# Altium integrated library Freescale Microcontroller 32-Bit ARM.IntLib: 64 symbols (part 5 of 7)
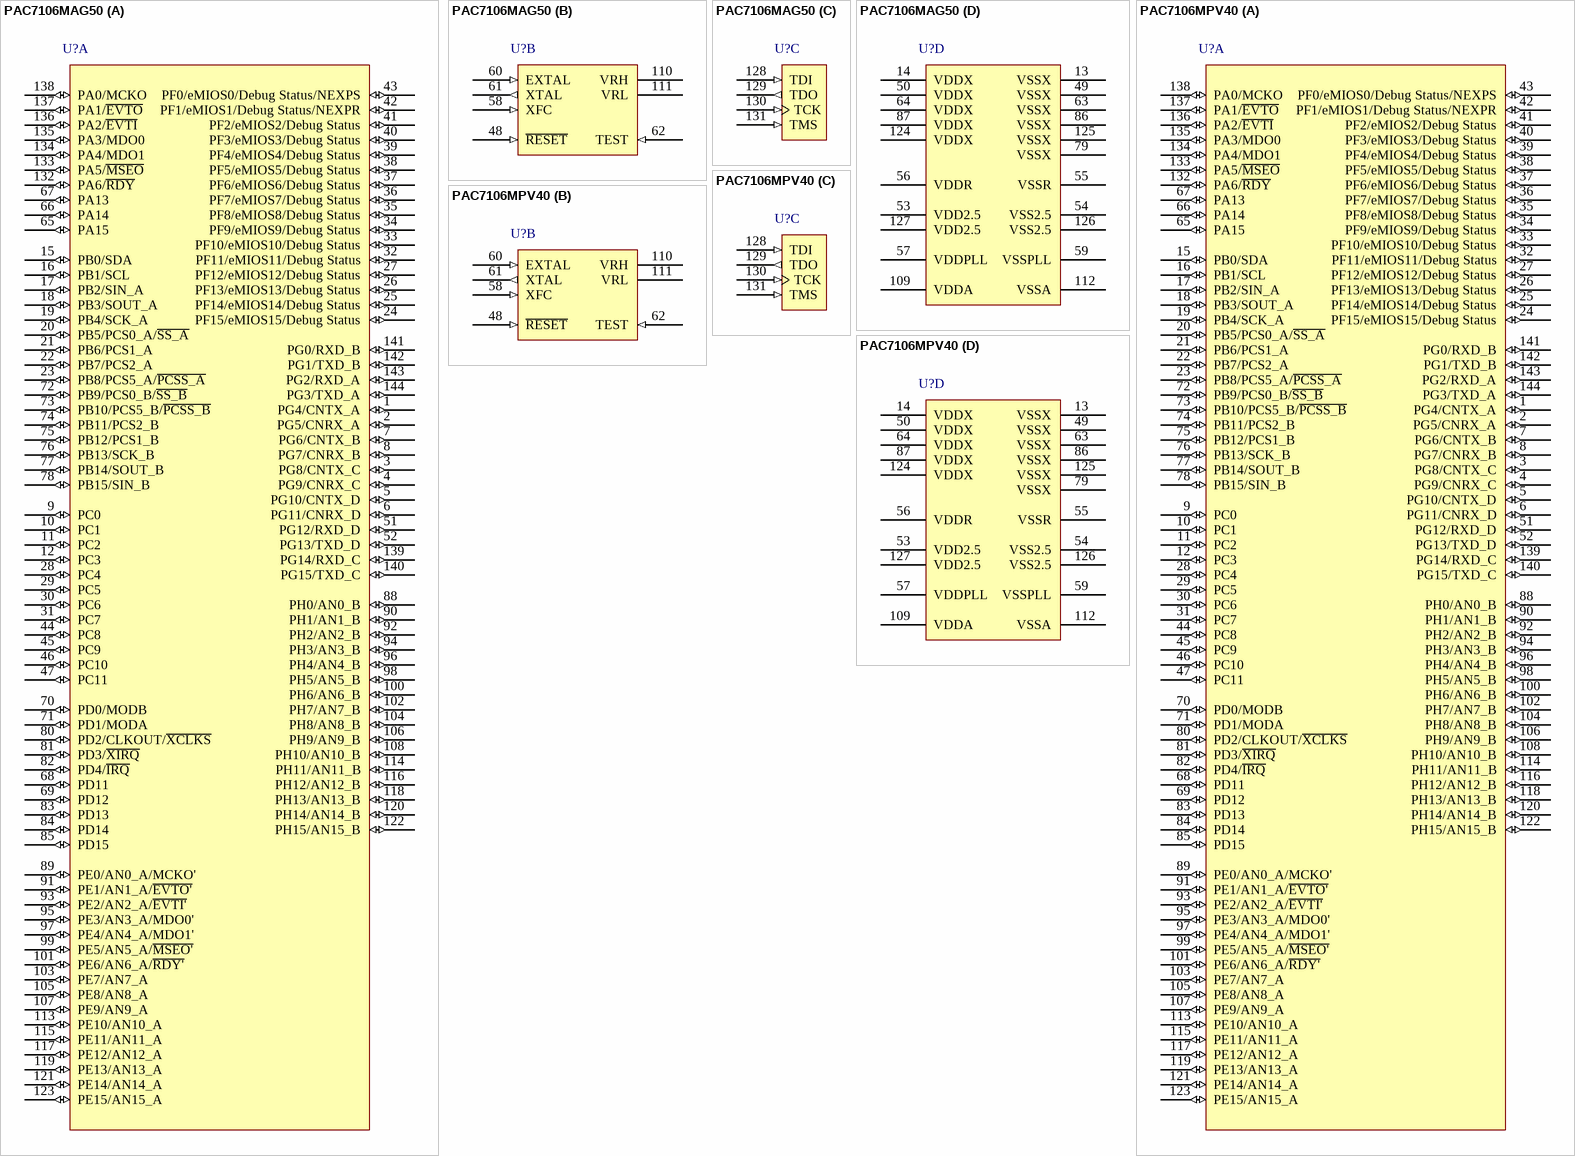
[diagram p42: symbols PAC7106MAG50 to PAC7106MPV40]

## PAC7106MPV40
designator U?
32-Bit ARM7TDMI-S RISC Core, 1MB Program Flash EEPROM, 48KB RAM, 144-Pin LQFP; FunctionAvailability: PD2 function and Debug Status port not available on mask set L49P devices.; Published: 16-Oct-2006; DatasheetVersion: rev1.2, Feb-2006; PackageVersion: revF, May-2005; PackageReference: 918-03; Publisher: Altium Limited; PackageDescription: 144-Pin Low Profile Quad Flat Pack 0.5 mm Pitch (918-03); ComponentLink1Description: Manufacturer Link; ComponentLink1URL: http://www.freescale.com/webapp/sps/site/taxonomy.jsp?nodeId=0162468rH311432451; ComponentLink2Description: Datasheet; ComponentLink2URL: http://www.freescale.com/files/32bit/doc/data_sheet/MAC7100EC.pdf; ComponentLink3Description: Packaging Specification; ComponentLink3URL: http://www.freescale.com/files/shared/doc/package_info/98ASS23177W.pdf
footprint 918-03_N (Thin QFP, 144-Leads, Body 20x20mm, Pitch 0.5mm, IPC Medium Density)
footprint 918-03_L (Thin QFP, 144-Leads, Body 20x20mm, Pitch 0.5mm, IPC High Density)
footprint 918-03_M (Thin QFP, 144-Leads, Body 20x20mm, Pitch 0.5mm, IPC Low Density)
part A pins: 1 PG4/CNTX_A (io), 2 PG5/CNRX_A (io), 3 PG8/CNTX_C (io), 4 PG9/CNRX_C (io), 5 PG10/CNTX_D (io), 6 PG11/CNRX_D (io), 7 PG6/CNTX_B (io), 8 PG7/CNRX_B (io), 9 PC0 (io), 10 PC1 (io), 11 PC2 (io), 12 PC3 (io), 15 PB0/SDA (io), 16 PB1/SCL (io), 17 PB2/SIN_A (io), 18 PB3/SOUT_A (io), 19 PB4/SCK_A (io), 20 PB5/PCS0_A/~{SS_A} (io), 21 PB6/PCS1_A (io), 22 PB7/PCS2_A (io), 23 PB8/PCS5_A/~{PCSS_A} (io), 24 PF15/eMIOS15/Debug Status (io), 25 PF14/eMIOS14/Debug Status (io), 26 PF13/eMIOS13/Debug Status (io), 27 PF12/eMIOS12/Debug Status (io), 28 PC4 (io), 29 PC5 (io), 30 PC6 (io), 31 PC7 (io), 32 PF11/eMIOS11/Debug Status (io), 33 PF10/eMIOS10/Debug Status (io), 34 PF9/eMIOS9/Debug Status (io), 35 PF8/eMIOS8/Debug Status (io), 36 PF7/eMIOS7/Debug Status (io), 37 PF6/eMIOS6/Debug Status (io), 38 PF5/eMIOS5/Debug Status (io), 39 PF4/eMIOS4/Debug Status (io), 40 PF3/eMIOS3/Debug Status (io), 41 PF2/eMIOS2/Debug Status (io), 42 PF1/eMIOS1/Debug Status/NEXPR (io), 43 PF0/eMIOS0/Debug Status/NEXPS (io), 44 PC8 (io), 45 PC9 (io), 46 PC10 (io), 47 PC11 (io), 51 PG12/RXD_D (io), 52 PG13/TXD_D (io), 65 PA15 (io), 66 PA14 (io), 67 PA13 (io), 68 PD11 (io), 69 PD12 (io), 70 PD0/MODB (io), 71 PD1/MODA (io), 72 PB9/PCS0_B/~{SS_B} (io), 73 PB10/PCS5_B/~{PCSS_B} (io), 74 PB11/PCS2_B (io), 75 PB12/PCS1_B (io), 76 PB13/SCK_B (io), 77 PB14/SOUT_B (io), 78 PB15/SIN_B (io), 80 PD2/CLKOUT/~{XCLKS} (io), 81 PD3/~{XIRQ} (io), 82 PD4/~{IRQ} (io), 83 PD13 (io), 84 PD14 (io), 85 PD15 (io), 88 PH0/AN0_B (io), 89 PE0/AN0_A/MCKO' (io), 90 PH1/AN1_B (io), 91 PE1/AN1_A/~{EVTO'} (io), 92 PH2/AN2_B (io), 93 PE2/AN2_A/~{EVTI'} (io), 94 PH3/AN3_B (io), 95 PE3/AN3_A/MDO0' (io), 96 PH4/AN4_B (io), 97 PE4/AN4_A/MDO1' (io), 98 PH5/AN5_B (io), 99 PE5/AN5_A/~{MSEO'} (io), 100 PH6/AN6_B (io), 101 PE6/AN6_A/~{RDY'} (io), 102 PH7/AN7_B (io), 103 PE7/AN7_A (io), 104 PH8/AN8_B (io), 105 PE8/AN8_A (io), 106 PH9/AN9_B (io), 107 PE9/AN9_A (io), 108 PH10/AN10_B (io), 113 PE10/AN10_A (io), 114 PH11/AN11_B (io), 115 PE11/AN11_A (io), 116 PH12/AN12_B (io), 117 PE12/AN12_A (io), 118 PH13/AN13_B (io), 119 PE13/AN13_A (io), 120 PH14/AN14_B (io), 121 PE14/AN14_A (io), 122 PH15/AN15_B (io), 123 PE15/AN15_A (io), 132 PA6/~{RDY} (io), 133 PA5/~{MSEO} (io), 134 PA4/MDO1 (io), 135 PA3/MDO0 (io), 136 PA2/~{EVTI} (io), 137 PA1/~{EVTO} (io), 138 PA0/MCKO (io), 139 PG14/RXD_C (io), 140 PG15/TXD_C (io), 141 PG0/RXD_B (io), 142 PG1/TXD_B (io), 143 PG2/RXD_A (io), 144 PG3/TXD_A (io)
part B pins: 48 ~{RESET} (in), 58 XFC (in), 60 EXTAL (in), 61 XTAL (out), 62 TEST (in), 110 VRH (power), 111 VRL (power)
part C pins: 128 TDI (in), 129 TDO (out), 130 TCK (in), 131 TMS (in)
part D pins: 13 VSSX (power), 14 VDDX (power), 49 VSSX (power), 50 VDDX (power), 53 VDD2.5 (power), 54 VSS2.5 (power), 55 VSSR (power), 56 VDDR (power), 57 VDDPLL (power), 59 VSSPLL (power), 63 VSSX (power), 64 VDDX (power), 79 VSSX (power), 86 VSSX (power), 87 VDDX (power), 109 VDDA (power), 112 VSSA (power), 124 VDDX (power), 125 VSSX (power), 126 VSS2.5 (power), 127 VDD2.5 (power)

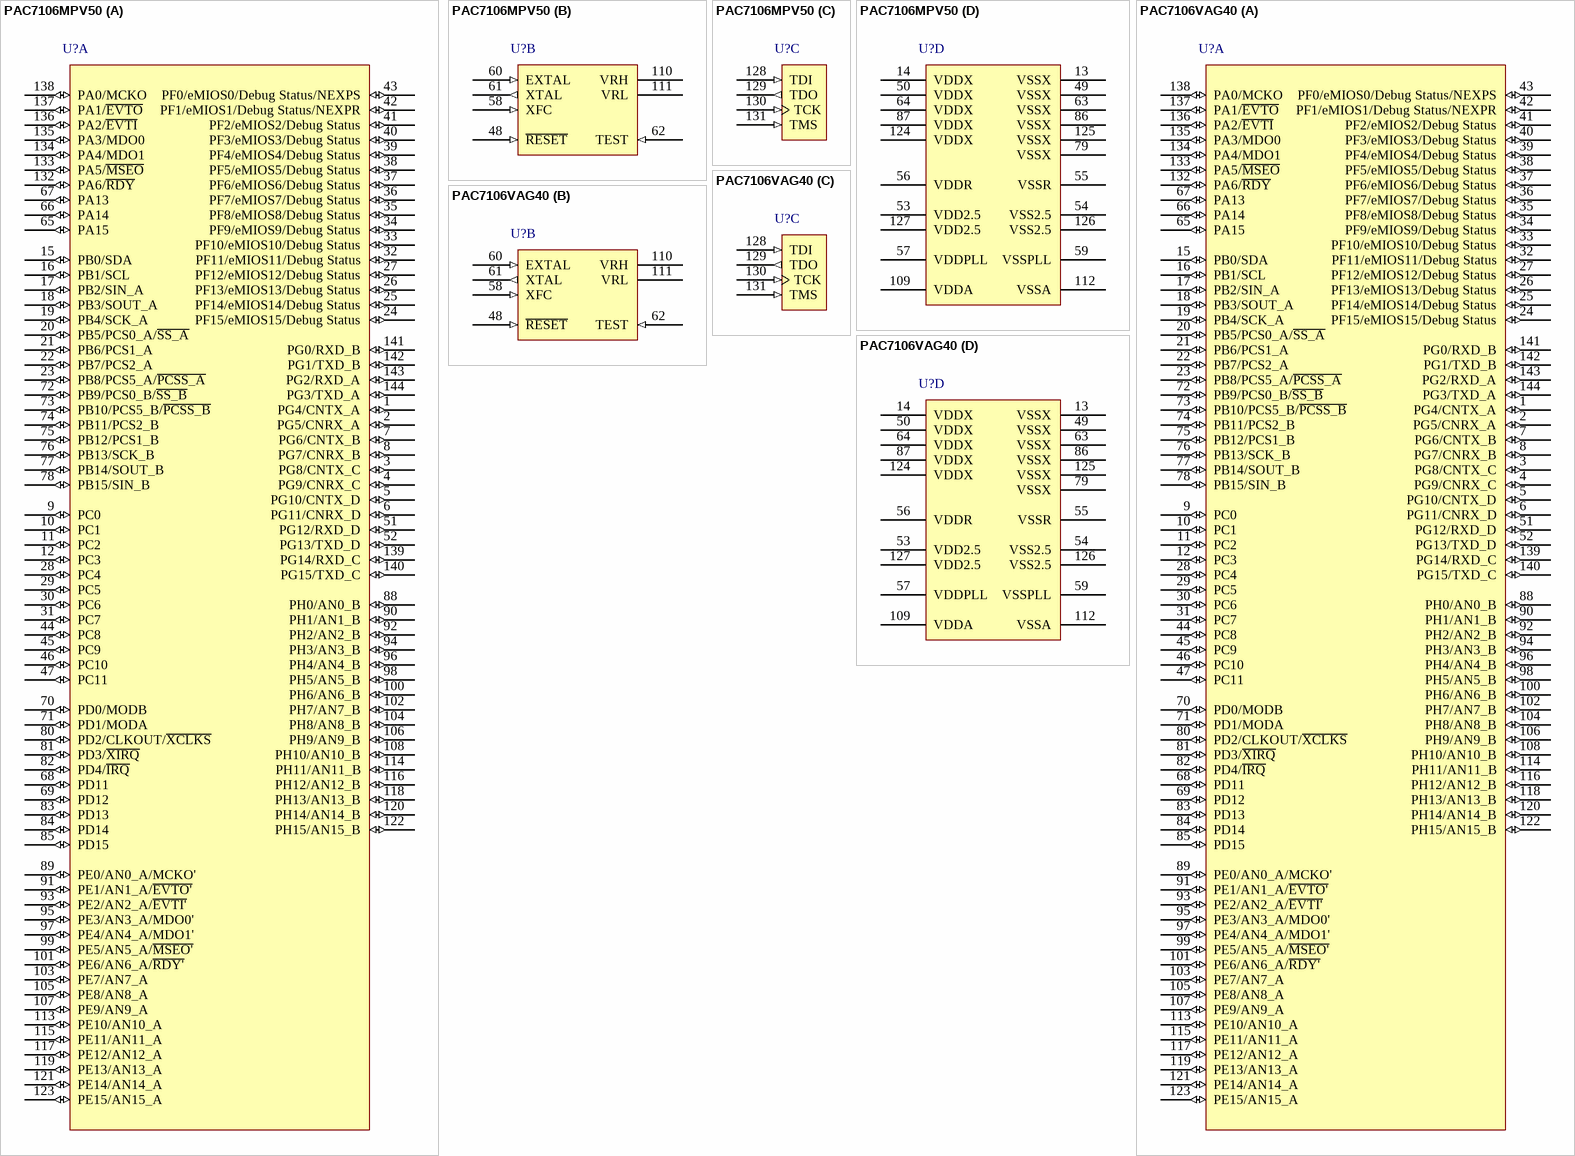
[diagram p25: symbols PAC7106MPV50 to PAC7106VAG40]

## PAC7106MPV50
designator U?
32-Bit ARM7TDMI-S RISC Core, 1MB Program Flash EEPROM, 48KB RAM, 144-Pin LQFP; FunctionAvailability: PD2 function and Debug Status port not available on mask set L49P devices.; Published: 16-Oct-2006; DatasheetVersion: rev1.2, Feb-2006; PackageVersion: revF, May-2005; PackageReference: 918-03; Publisher: Altium Limited; PackageDescription: 144-Pin Low Profile Quad Flat Pack 0.5 mm Pitch (918-03); ComponentLink1Description: Manufacturer Link; ComponentLink1URL: http://www.freescale.com/webapp/sps/site/taxonomy.jsp?nodeId=0162468rH311432451; ComponentLink2Description: Datasheet; ComponentLink2URL: http://www.freescale.com/files/32bit/doc/data_sheet/MAC7100EC.pdf; ComponentLink3Description: Packaging Specification; ComponentLink3URL: http://www.freescale.com/files/shared/doc/package_info/98ASS23177W.pdf
footprint 918-03_N (Thin QFP, 144-Leads, Body 20x20mm, Pitch 0.5mm, IPC Medium Density)
footprint 918-03_L (Thin QFP, 144-Leads, Body 20x20mm, Pitch 0.5mm, IPC High Density)
footprint 918-03_M (Thin QFP, 144-Leads, Body 20x20mm, Pitch 0.5mm, IPC Low Density)
part A pins: 1 PG4/CNTX_A (io), 2 PG5/CNRX_A (io), 3 PG8/CNTX_C (io), 4 PG9/CNRX_C (io), 5 PG10/CNTX_D (io), 6 PG11/CNRX_D (io), 7 PG6/CNTX_B (io), 8 PG7/CNRX_B (io), 9 PC0 (io), 10 PC1 (io), 11 PC2 (io), 12 PC3 (io), 15 PB0/SDA (io), 16 PB1/SCL (io), 17 PB2/SIN_A (io), 18 PB3/SOUT_A (io), 19 PB4/SCK_A (io), 20 PB5/PCS0_A/~{SS_A} (io), 21 PB6/PCS1_A (io), 22 PB7/PCS2_A (io), 23 PB8/PCS5_A/~{PCSS_A} (io), 24 PF15/eMIOS15/Debug Status (io), 25 PF14/eMIOS14/Debug Status (io), 26 PF13/eMIOS13/Debug Status (io), 27 PF12/eMIOS12/Debug Status (io), 28 PC4 (io), 29 PC5 (io), 30 PC6 (io), 31 PC7 (io), 32 PF11/eMIOS11/Debug Status (io), 33 PF10/eMIOS10/Debug Status (io), 34 PF9/eMIOS9/Debug Status (io), 35 PF8/eMIOS8/Debug Status (io), 36 PF7/eMIOS7/Debug Status (io), 37 PF6/eMIOS6/Debug Status (io), 38 PF5/eMIOS5/Debug Status (io), 39 PF4/eMIOS4/Debug Status (io), 40 PF3/eMIOS3/Debug Status (io), 41 PF2/eMIOS2/Debug Status (io), 42 PF1/eMIOS1/Debug Status/NEXPR (io), 43 PF0/eMIOS0/Debug Status/NEXPS (io), 44 PC8 (io), 45 PC9 (io), 46 PC10 (io), 47 PC11 (io), 51 PG12/RXD_D (io), 52 PG13/TXD_D (io), 65 PA15 (io), 66 PA14 (io), 67 PA13 (io), 68 PD11 (io), 69 PD12 (io), 70 PD0/MODB (io), 71 PD1/MODA (io), 72 PB9/PCS0_B/~{SS_B} (io), 73 PB10/PCS5_B/~{PCSS_B} (io), 74 PB11/PCS2_B (io), 75 PB12/PCS1_B (io), 76 PB13/SCK_B (io), 77 PB14/SOUT_B (io), 78 PB15/SIN_B (io), 80 PD2/CLKOUT/~{XCLKS} (io), 81 PD3/~{XIRQ} (io), 82 PD4/~{IRQ} (io), 83 PD13 (io), 84 PD14 (io), 85 PD15 (io), 88 PH0/AN0_B (io), 89 PE0/AN0_A/MCKO' (io), 90 PH1/AN1_B (io), 91 PE1/AN1_A/~{EVTO'} (io), 92 PH2/AN2_B (io), 93 PE2/AN2_A/~{EVTI'} (io), 94 PH3/AN3_B (io), 95 PE3/AN3_A/MDO0' (io), 96 PH4/AN4_B (io), 97 PE4/AN4_A/MDO1' (io), 98 PH5/AN5_B (io), 99 PE5/AN5_A/~{MSEO'} (io), 100 PH6/AN6_B (io), 101 PE6/AN6_A/~{RDY'} (io), 102 PH7/AN7_B (io), 103 PE7/AN7_A (io), 104 PH8/AN8_B (io), 105 PE8/AN8_A (io), 106 PH9/AN9_B (io), 107 PE9/AN9_A (io), 108 PH10/AN10_B (io), 113 PE10/AN10_A (io), 114 PH11/AN11_B (io), 115 PE11/AN11_A (io), 116 PH12/AN12_B (io), 117 PE12/AN12_A (io), 118 PH13/AN13_B (io), 119 PE13/AN13_A (io), 120 PH14/AN14_B (io), 121 PE14/AN14_A (io), 122 PH15/AN15_B (io), 123 PE15/AN15_A (io), 132 PA6/~{RDY} (io), 133 PA5/~{MSEO} (io), 134 PA4/MDO1 (io), 135 PA3/MDO0 (io), 136 PA2/~{EVTI} (io), 137 PA1/~{EVTO} (io), 138 PA0/MCKO (io), 139 PG14/RXD_C (io), 140 PG15/TXD_C (io), 141 PG0/RXD_B (io), 142 PG1/TXD_B (io), 143 PG2/RXD_A (io), 144 PG3/TXD_A (io)
part B pins: 48 ~{RESET} (in), 58 XFC (in), 60 EXTAL (in), 61 XTAL (out), 62 TEST (in), 110 VRH (power), 111 VRL (power)
part C pins: 128 TDI (in), 129 TDO (out), 130 TCK (in), 131 TMS (in)
part D pins: 13 VSSX (power), 14 VDDX (power), 49 VSSX (power), 50 VDDX (power), 53 VDD2.5 (power), 54 VSS2.5 (power), 55 VSSR (power), 56 VDDR (power), 57 VDDPLL (power), 59 VSSPLL (power), 63 VSSX (power), 64 VDDX (power), 79 VSSX (power), 86 VSSX (power), 87 VDDX (power), 109 VDDA (power), 112 VSSA (power), 124 VDDX (power), 125 VSSX (power), 126 VSS2.5 (power), 127 VDD2.5 (power)

## PAC7106VAG40
designator U?
32-Bit ARM7TDMI-S RISC Core, 1MB Program Flash EEPROM, 48KB RAM, 144-Pin LQFP, Pb-Free; FunctionAvailability: PD2 function and Debug Status port not available on mask set L49P devices.; Published: 16-Oct-2006; DatasheetVersion: rev1.2, Feb-2006; PackageVersion: revF, May-2005; PackageReference: 918-03; Publisher: Altium Limited; PackageDescription: 144-Pin Low Profile Quad Flat Pack 0.5 mm Pitch (918-03); ComponentLink1Description: Manufacturer Link; ComponentLink1URL: http://www.freescale.com/webapp/sps/site/taxonomy.jsp?nodeId=0162468rH311432451; ComponentLink2Description: Datasheet; ComponentLink2URL: http://www.freescale.com/files/32bit/doc/data_sheet/MAC7100EC.pdf; ComponentLink3Description: Packaging Specification; ComponentLink3URL: http://www.freescale.com/files/shared/doc/package_info/98ASS23177W.pdf
footprint 918-03_N (Thin QFP, 144-Leads, Body 20x20mm, Pitch 0.5mm, IPC Medium Density)
footprint 918-03_L (Thin QFP, 144-Leads, Body 20x20mm, Pitch 0.5mm, IPC High Density)
footprint 918-03_M (Thin QFP, 144-Leads, Body 20x20mm, Pitch 0.5mm, IPC Low Density)
part A pins: 1 PG4/CNTX_A (io), 2 PG5/CNRX_A (io), 3 PG8/CNTX_C (io), 4 PG9/CNRX_C (io), 5 PG10/CNTX_D (io), 6 PG11/CNRX_D (io), 7 PG6/CNTX_B (io), 8 PG7/CNRX_B (io), 9 PC0 (io), 10 PC1 (io), 11 PC2 (io), 12 PC3 (io), 15 PB0/SDA (io), 16 PB1/SCL (io), 17 PB2/SIN_A (io), 18 PB3/SOUT_A (io), 19 PB4/SCK_A (io), 20 PB5/PCS0_A/~{SS_A} (io), 21 PB6/PCS1_A (io), 22 PB7/PCS2_A (io), 23 PB8/PCS5_A/~{PCSS_A} (io), 24 PF15/eMIOS15/Debug Status (io), 25 PF14/eMIOS14/Debug Status (io), 26 PF13/eMIOS13/Debug Status (io), 27 PF12/eMIOS12/Debug Status (io), 28 PC4 (io), 29 PC5 (io), 30 PC6 (io), 31 PC7 (io), 32 PF11/eMIOS11/Debug Status (io), 33 PF10/eMIOS10/Debug Status (io), 34 PF9/eMIOS9/Debug Status (io), 35 PF8/eMIOS8/Debug Status (io), 36 PF7/eMIOS7/Debug Status (io), 37 PF6/eMIOS6/Debug Status (io), 38 PF5/eMIOS5/Debug Status (io), 39 PF4/eMIOS4/Debug Status (io), 40 PF3/eMIOS3/Debug Status (io), 41 PF2/eMIOS2/Debug Status (io), 42 PF1/eMIOS1/Debug Status/NEXPR (io), 43 PF0/eMIOS0/Debug Status/NEXPS (io), 44 PC8 (io), 45 PC9 (io), 46 PC10 (io), 47 PC11 (io), 51 PG12/RXD_D (io), 52 PG13/TXD_D (io), 65 PA15 (io), 66 PA14 (io), 67 PA13 (io), 68 PD11 (io), 69 PD12 (io), 70 PD0/MODB (io), 71 PD1/MODA (io), 72 PB9/PCS0_B/~{SS_B} (io), 73 PB10/PCS5_B/~{PCSS_B} (io), 74 PB11/PCS2_B (io), 75 PB12/PCS1_B (io), 76 PB13/SCK_B (io), 77 PB14/SOUT_B (io), 78 PB15/SIN_B (io), 80 PD2/CLKOUT/~{XCLKS} (io), 81 PD3/~{XIRQ} (io), 82 PD4/~{IRQ} (io), 83 PD13 (io), 84 PD14 (io), 85 PD15 (io), 88 PH0/AN0_B (io), 89 PE0/AN0_A/MCKO' (io), 90 PH1/AN1_B (io), 91 PE1/AN1_A/~{EVTO'} (io), 92 PH2/AN2_B (io), 93 PE2/AN2_A/~{EVTI'} (io), 94 PH3/AN3_B (io), 95 PE3/AN3_A/MDO0' (io), 96 PH4/AN4_B (io), 97 PE4/AN4_A/MDO1' (io), 98 PH5/AN5_B (io), 99 PE5/AN5_A/~{MSEO'} (io), 100 PH6/AN6_B (io), 101 PE6/AN6_A/~{RDY'} (io), 102 PH7/AN7_B (io), 103 PE7/AN7_A (io), 104 PH8/AN8_B (io), 105 PE8/AN8_A (io), 106 PH9/AN9_B (io), 107 PE9/AN9_A (io), 108 PH10/AN10_B (io), 113 PE10/AN10_A (io), 114 PH11/AN11_B (io), 115 PE11/AN11_A (io), 116 PH12/AN12_B (io), 117 PE12/AN12_A (io), 118 PH13/AN13_B (io), 119 PE13/AN13_A (io), 120 PH14/AN14_B (io), 121 PE14/AN14_A (io), 122 PH15/AN15_B (io), 123 PE15/AN15_A (io), 132 PA6/~{RDY} (io), 133 PA5/~{MSEO} (io), 134 PA4/MDO1 (io), 135 PA3/MDO0 (io), 136 PA2/~{EVTI} (io), 137 PA1/~{EVTO} (io), 138 PA0/MCKO (io), 139 PG14/RXD_C (io), 140 PG15/TXD_C (io), 141 PG0/RXD_B (io), 142 PG1/TXD_B (io), 143 PG2/RXD_A (io), 144 PG3/TXD_A (io)
part B pins: 48 ~{RESET} (in), 58 XFC (in), 60 EXTAL (in), 61 XTAL (out), 62 TEST (in), 110 VRH (power), 111 VRL (power)
part C pins: 128 TDI (in), 129 TDO (out), 130 TCK (in), 131 TMS (in)
part D pins: 13 VSSX (power), 14 VDDX (power), 49 VSSX (power), 50 VDDX (power), 53 VDD2.5 (power), 54 VSS2.5 (power), 55 VSSR (power), 56 VDDR (power), 57 VDDPLL (power), 59 VSSPLL (power), 63 VSSX (power), 64 VDDX (power), 79 VSSX (power), 86 VSSX (power), 87 VDDX (power), 109 VDDA (power), 112 VSSA (power), 124 VDDX (power), 125 VSSX (power), 126 VSS2.5 (power), 127 VDD2.5 (power)

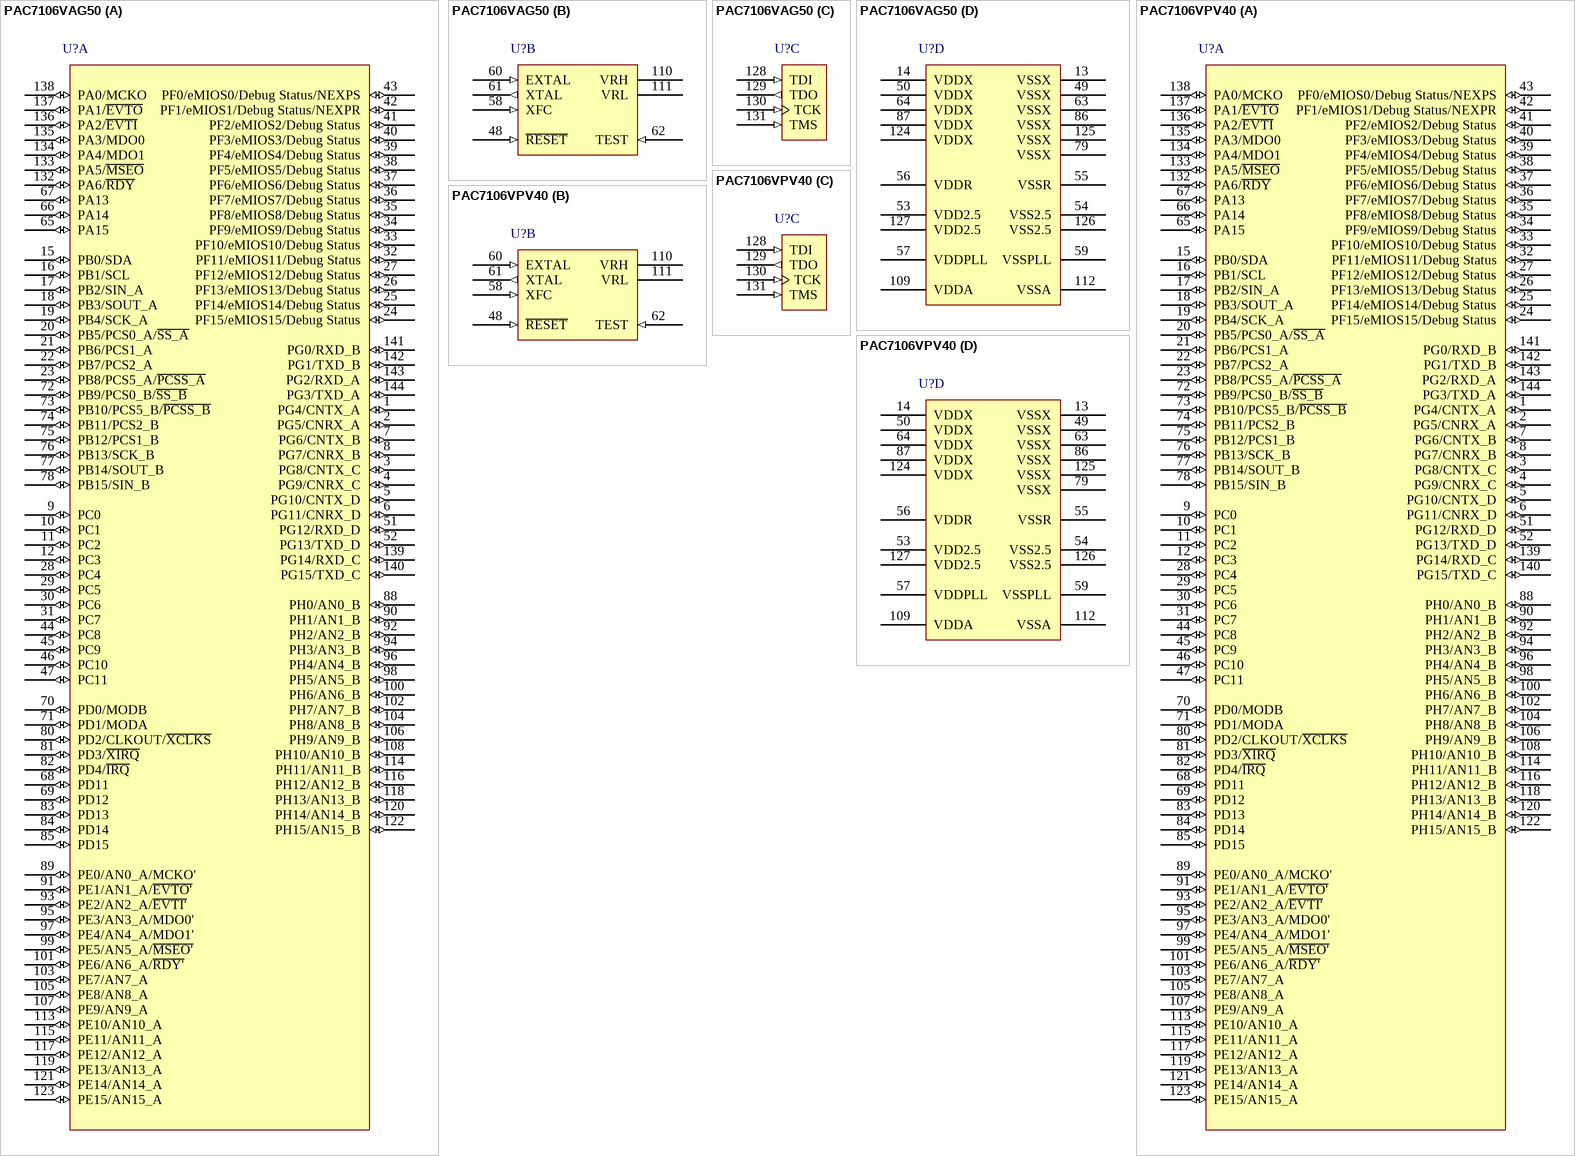
[diagram p26: symbols PAC7106VAG50 to PAC7106VPV40]

## PAC7106VAG50
designator U?
32-Bit ARM7TDMI-S RISC Core, 1MB Program Flash EEPROM, 48KB RAM, 144-Pin LQFP, Pb-Free; FunctionAvailability: PD2 function and Debug Status port not available on mask set L49P devices.; Published: 16-Oct-2006; DatasheetVersion: rev1.2, Feb-2006; PackageVersion: revF, May-2005; PackageReference: 918-03; Publisher: Altium Limited; PackageDescription: 144-Pin Low Profile Quad Flat Pack 0.5 mm Pitch (918-03); ComponentLink1Description: Manufacturer Link; ComponentLink1URL: http://www.freescale.com/webapp/sps/site/taxonomy.jsp?nodeId=0162468rH311432451; ComponentLink2Description: Datasheet; ComponentLink2URL: http://www.freescale.com/files/32bit/doc/data_sheet/MAC7100EC.pdf; ComponentLink3Description: Packaging Specification; ComponentLink3URL: http://www.freescale.com/files/shared/doc/package_info/98ASS23177W.pdf
footprint 918-03_N (Thin QFP, 144-Leads, Body 20x20mm, Pitch 0.5mm, IPC Medium Density)
footprint 918-03_L (Thin QFP, 144-Leads, Body 20x20mm, Pitch 0.5mm, IPC High Density)
footprint 918-03_M (Thin QFP, 144-Leads, Body 20x20mm, Pitch 0.5mm, IPC Low Density)
part A pins: 1 PG4/CNTX_A (io), 2 PG5/CNRX_A (io), 3 PG8/CNTX_C (io), 4 PG9/CNRX_C (io), 5 PG10/CNTX_D (io), 6 PG11/CNRX_D (io), 7 PG6/CNTX_B (io), 8 PG7/CNRX_B (io), 9 PC0 (io), 10 PC1 (io), 11 PC2 (io), 12 PC3 (io), 15 PB0/SDA (io), 16 PB1/SCL (io), 17 PB2/SIN_A (io), 18 PB3/SOUT_A (io), 19 PB4/SCK_A (io), 20 PB5/PCS0_A/~{SS_A} (io), 21 PB6/PCS1_A (io), 22 PB7/PCS2_A (io), 23 PB8/PCS5_A/~{PCSS_A} (io), 24 PF15/eMIOS15/Debug Status (io), 25 PF14/eMIOS14/Debug Status (io), 26 PF13/eMIOS13/Debug Status (io), 27 PF12/eMIOS12/Debug Status (io), 28 PC4 (io), 29 PC5 (io), 30 PC6 (io), 31 PC7 (io), 32 PF11/eMIOS11/Debug Status (io), 33 PF10/eMIOS10/Debug Status (io), 34 PF9/eMIOS9/Debug Status (io), 35 PF8/eMIOS8/Debug Status (io), 36 PF7/eMIOS7/Debug Status (io), 37 PF6/eMIOS6/Debug Status (io), 38 PF5/eMIOS5/Debug Status (io), 39 PF4/eMIOS4/Debug Status (io), 40 PF3/eMIOS3/Debug Status (io), 41 PF2/eMIOS2/Debug Status (io), 42 PF1/eMIOS1/Debug Status/NEXPR (io), 43 PF0/eMIOS0/Debug Status/NEXPS (io), 44 PC8 (io), 45 PC9 (io), 46 PC10 (io), 47 PC11 (io), 51 PG12/RXD_D (io), 52 PG13/TXD_D (io), 65 PA15 (io), 66 PA14 (io), 67 PA13 (io), 68 PD11 (io), 69 PD12 (io), 70 PD0/MODB (io), 71 PD1/MODA (io), 72 PB9/PCS0_B/~{SS_B} (io), 73 PB10/PCS5_B/~{PCSS_B} (io), 74 PB11/PCS2_B (io), 75 PB12/PCS1_B (io), 76 PB13/SCK_B (io), 77 PB14/SOUT_B (io), 78 PB15/SIN_B (io), 80 PD2/CLKOUT/~{XCLKS} (io), 81 PD3/~{XIRQ} (io), 82 PD4/~{IRQ} (io), 83 PD13 (io), 84 PD14 (io), 85 PD15 (io), 88 PH0/AN0_B (io), 89 PE0/AN0_A/MCKO' (io), 90 PH1/AN1_B (io), 91 PE1/AN1_A/~{EVTO'} (io), 92 PH2/AN2_B (io), 93 PE2/AN2_A/~{EVTI'} (io), 94 PH3/AN3_B (io), 95 PE3/AN3_A/MDO0' (io), 96 PH4/AN4_B (io), 97 PE4/AN4_A/MDO1' (io), 98 PH5/AN5_B (io), 99 PE5/AN5_A/~{MSEO'} (io), 100 PH6/AN6_B (io), 101 PE6/AN6_A/~{RDY'} (io), 102 PH7/AN7_B (io), 103 PE7/AN7_A (io), 104 PH8/AN8_B (io), 105 PE8/AN8_A (io), 106 PH9/AN9_B (io), 107 PE9/AN9_A (io), 108 PH10/AN10_B (io), 113 PE10/AN10_A (io), 114 PH11/AN11_B (io), 115 PE11/AN11_A (io), 116 PH12/AN12_B (io), 117 PE12/AN12_A (io), 118 PH13/AN13_B (io), 119 PE13/AN13_A (io), 120 PH14/AN14_B (io), 121 PE14/AN14_A (io), 122 PH15/AN15_B (io), 123 PE15/AN15_A (io), 132 PA6/~{RDY} (io), 133 PA5/~{MSEO} (io), 134 PA4/MDO1 (io), 135 PA3/MDO0 (io), 136 PA2/~{EVTI} (io), 137 PA1/~{EVTO} (io), 138 PA0/MCKO (io), 139 PG14/RXD_C (io), 140 PG15/TXD_C (io), 141 PG0/RXD_B (io), 142 PG1/TXD_B (io), 143 PG2/RXD_A (io), 144 PG3/TXD_A (io)
part B pins: 48 ~{RESET} (in), 58 XFC (in), 60 EXTAL (in), 61 XTAL (out), 62 TEST (in), 110 VRH (power), 111 VRL (power)
part C pins: 128 TDI (in), 129 TDO (out), 130 TCK (in), 131 TMS (in)
part D pins: 13 VSSX (power), 14 VDDX (power), 49 VSSX (power), 50 VDDX (power), 53 VDD2.5 (power), 54 VSS2.5 (power), 55 VSSR (power), 56 VDDR (power), 57 VDDPLL (power), 59 VSSPLL (power), 63 VSSX (power), 64 VDDX (power), 79 VSSX (power), 86 VSSX (power), 87 VDDX (power), 109 VDDA (power), 112 VSSA (power), 124 VDDX (power), 125 VSSX (power), 126 VSS2.5 (power), 127 VDD2.5 (power)

## PAC7106VPV40
designator U?
32-Bit ARM7TDMI-S RISC Core, 1MB Program Flash EEPROM, 48KB RAM, 144-Pin LQFP; FunctionAvailability: PD2 function and Debug Status port not available on mask set L49P devices.; Published: 16-Oct-2006; DatasheetVersion: rev1.2, Feb-2006; PackageVersion: revF, May-2005; PackageReference: 918-03; Publisher: Altium Limited; PackageDescription: 144-Pin Low Profile Quad Flat Pack 0.5 mm Pitch (918-03); ComponentLink1Description: Manufacturer Link; ComponentLink1URL: http://www.freescale.com/webapp/sps/site/taxonomy.jsp?nodeId=0162468rH311432451; ComponentLink2Description: Datasheet; ComponentLink2URL: http://www.freescale.com/files/32bit/doc/data_sheet/MAC7100EC.pdf; ComponentLink3Description: Packaging Specification; ComponentLink3URL: http://www.freescale.com/files/shared/doc/package_info/98ASS23177W.pdf
footprint 918-03_N (Thin QFP, 144-Leads, Body 20x20mm, Pitch 0.5mm, IPC Medium Density)
footprint 918-03_L (Thin QFP, 144-Leads, Body 20x20mm, Pitch 0.5mm, IPC High Density)
footprint 918-03_M (Thin QFP, 144-Leads, Body 20x20mm, Pitch 0.5mm, IPC Low Density)
part A pins: 1 PG4/CNTX_A (io), 2 PG5/CNRX_A (io), 3 PG8/CNTX_C (io), 4 PG9/CNRX_C (io), 5 PG10/CNTX_D (io), 6 PG11/CNRX_D (io), 7 PG6/CNTX_B (io), 8 PG7/CNRX_B (io), 9 PC0 (io), 10 PC1 (io), 11 PC2 (io), 12 PC3 (io), 15 PB0/SDA (io), 16 PB1/SCL (io), 17 PB2/SIN_A (io), 18 PB3/SOUT_A (io), 19 PB4/SCK_A (io), 20 PB5/PCS0_A/~{SS_A} (io), 21 PB6/PCS1_A (io), 22 PB7/PCS2_A (io), 23 PB8/PCS5_A/~{PCSS_A} (io), 24 PF15/eMIOS15/Debug Status (io), 25 PF14/eMIOS14/Debug Status (io), 26 PF13/eMIOS13/Debug Status (io), 27 PF12/eMIOS12/Debug Status (io), 28 PC4 (io), 29 PC5 (io), 30 PC6 (io), 31 PC7 (io), 32 PF11/eMIOS11/Debug Status (io), 33 PF10/eMIOS10/Debug Status (io), 34 PF9/eMIOS9/Debug Status (io), 35 PF8/eMIOS8/Debug Status (io), 36 PF7/eMIOS7/Debug Status (io), 37 PF6/eMIOS6/Debug Status (io), 38 PF5/eMIOS5/Debug Status (io), 39 PF4/eMIOS4/Debug Status (io), 40 PF3/eMIOS3/Debug Status (io), 41 PF2/eMIOS2/Debug Status (io), 42 PF1/eMIOS1/Debug Status/NEXPR (io), 43 PF0/eMIOS0/Debug Status/NEXPS (io), 44 PC8 (io), 45 PC9 (io), 46 PC10 (io), 47 PC11 (io), 51 PG12/RXD_D (io), 52 PG13/TXD_D (io), 65 PA15 (io), 66 PA14 (io), 67 PA13 (io), 68 PD11 (io), 69 PD12 (io), 70 PD0/MODB (io), 71 PD1/MODA (io), 72 PB9/PCS0_B/~{SS_B} (io), 73 PB10/PCS5_B/~{PCSS_B} (io), 74 PB11/PCS2_B (io), 75 PB12/PCS1_B (io), 76 PB13/SCK_B (io), 77 PB14/SOUT_B (io), 78 PB15/SIN_B (io), 80 PD2/CLKOUT/~{XCLKS} (io), 81 PD3/~{XIRQ} (io), 82 PD4/~{IRQ} (io), 83 PD13 (io), 84 PD14 (io), 85 PD15 (io), 88 PH0/AN0_B (io), 89 PE0/AN0_A/MCKO' (io), 90 PH1/AN1_B (io), 91 PE1/AN1_A/~{EVTO'} (io), 92 PH2/AN2_B (io), 93 PE2/AN2_A/~{EVTI'} (io), 94 PH3/AN3_B (io), 95 PE3/AN3_A/MDO0' (io), 96 PH4/AN4_B (io), 97 PE4/AN4_A/MDO1' (io), 98 PH5/AN5_B (io), 99 PE5/AN5_A/~{MSEO'} (io), 100 PH6/AN6_B (io), 101 PE6/AN6_A/~{RDY'} (io), 102 PH7/AN7_B (io), 103 PE7/AN7_A (io), 104 PH8/AN8_B (io), 105 PE8/AN8_A (io), 106 PH9/AN9_B (io), 107 PE9/AN9_A (io), 108 PH10/AN10_B (io), 113 PE10/AN10_A (io), 114 PH11/AN11_B (io), 115 PE11/AN11_A (io), 116 PH12/AN12_B (io), 117 PE12/AN12_A (io), 118 PH13/AN13_B (io), 119 PE13/AN13_A (io), 120 PH14/AN14_B (io), 121 PE14/AN14_A (io), 122 PH15/AN15_B (io), 123 PE15/AN15_A (io), 132 PA6/~{RDY} (io), 133 PA5/~{MSEO} (io), 134 PA4/MDO1 (io), 135 PA3/MDO0 (io), 136 PA2/~{EVTI} (io), 137 PA1/~{EVTO} (io), 138 PA0/MCKO (io), 139 PG14/RXD_C (io), 140 PG15/TXD_C (io), 141 PG0/RXD_B (io), 142 PG1/TXD_B (io), 143 PG2/RXD_A (io), 144 PG3/TXD_A (io)
part B pins: 48 ~{RESET} (in), 58 XFC (in), 60 EXTAL (in), 61 XTAL (out), 62 TEST (in), 110 VRH (power), 111 VRL (power)
part C pins: 128 TDI (in), 129 TDO (out), 130 TCK (in), 131 TMS (in)
part D pins: 13 VSSX (power), 14 VDDX (power), 49 VSSX (power), 50 VDDX (power), 53 VDD2.5 (power), 54 VSS2.5 (power), 55 VSSR (power), 56 VDDR (power), 57 VDDPLL (power), 59 VSSPLL (power), 63 VSSX (power), 64 VDDX (power), 79 VSSX (power), 86 VSSX (power), 87 VDDX (power), 109 VDDA (power), 112 VSSA (power), 124 VDDX (power), 125 VSSX (power), 126 VSS2.5 (power), 127 VDD2.5 (power)

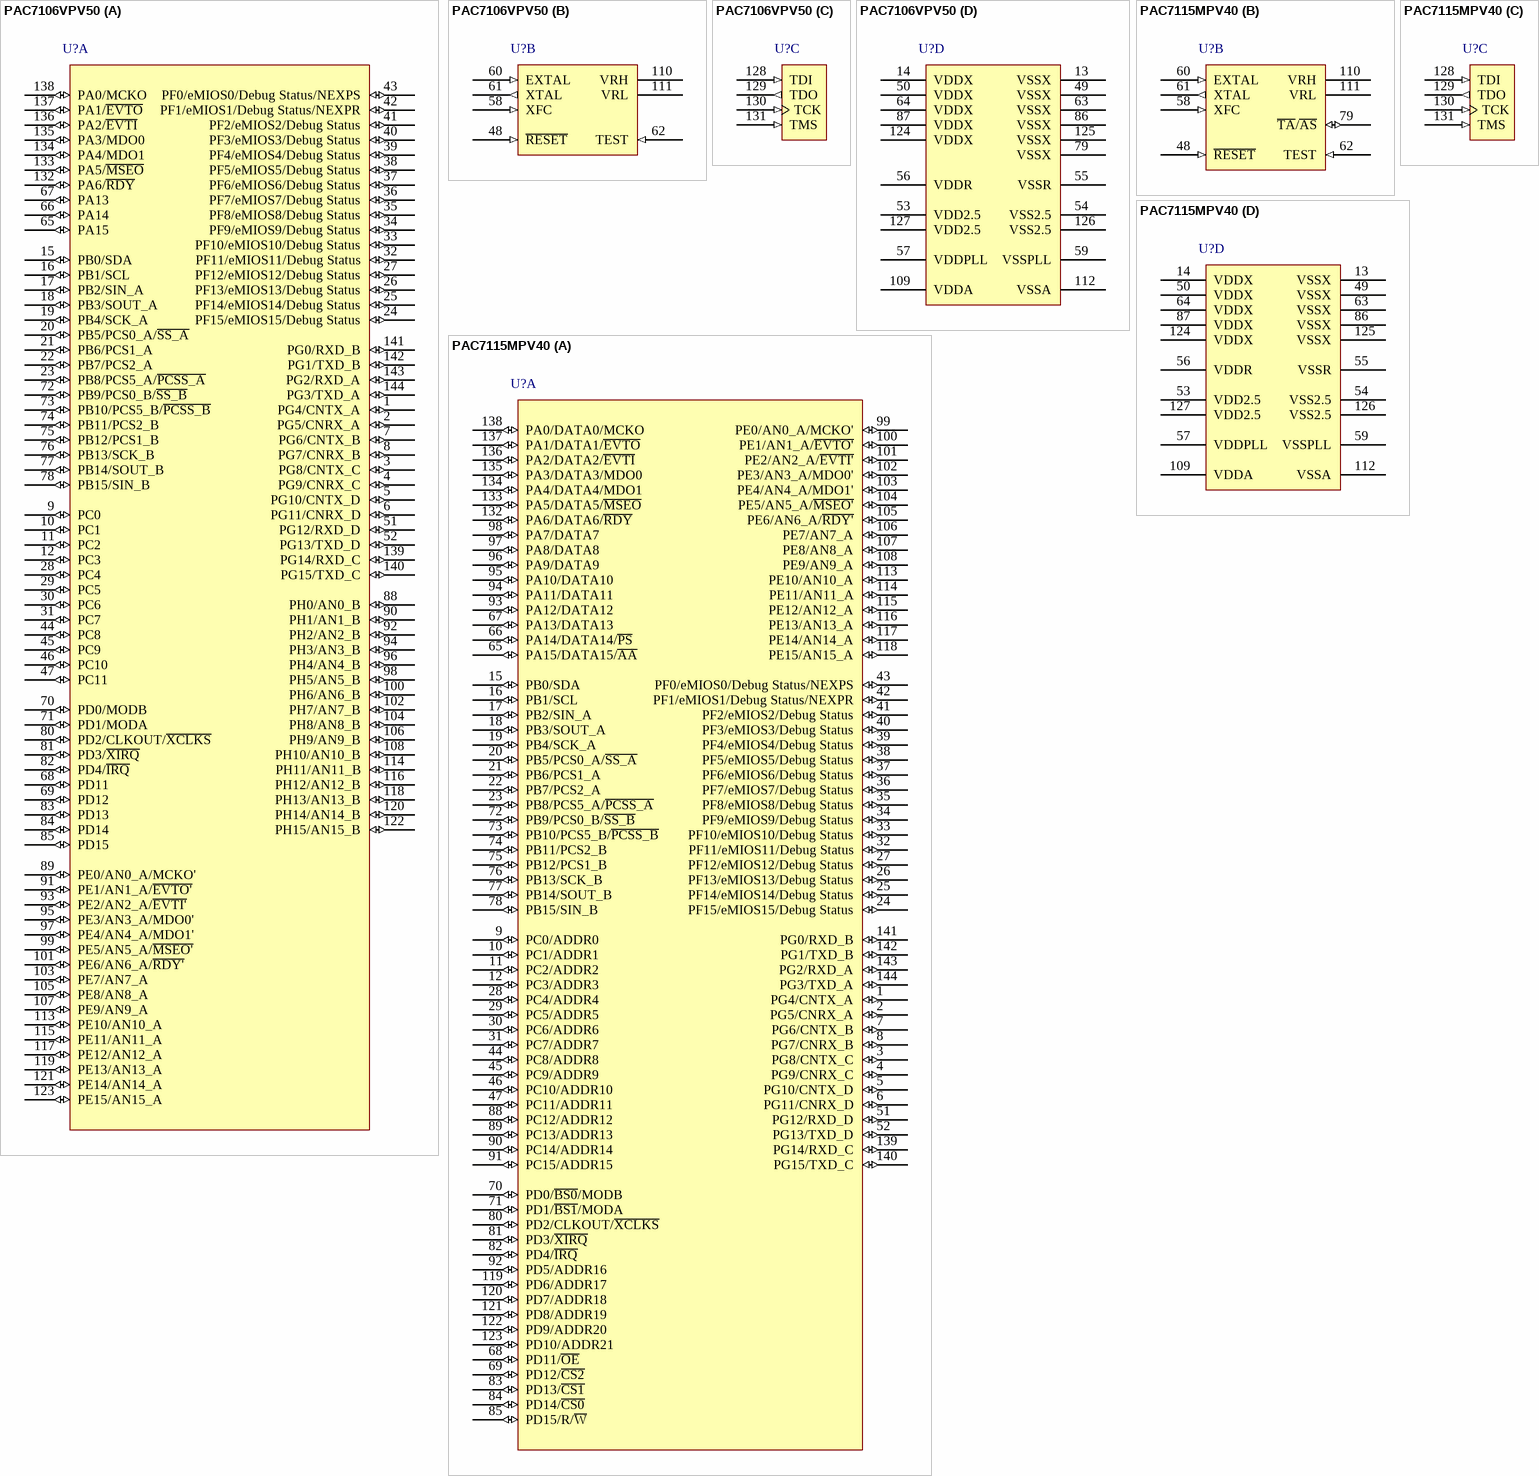
[diagram p27: symbols PAC7106VPV50 to PAC7115MPV40]

## PAC7106VPV50
designator U?
32-Bit ARM7TDMI-S RISC Core, 1MB Program Flash EEPROM, 48KB RAM, 144-Pin LQFP; FunctionAvailability: PD2 function and Debug Status port not available on mask set L49P devices.; Published: 16-Oct-2006; DatasheetVersion: rev1.2, Feb-2006; PackageVersion: revF, May-2005; PackageReference: 918-03; Publisher: Altium Limited; PackageDescription: 144-Pin Low Profile Quad Flat Pack 0.5 mm Pitch (918-03); ComponentLink1Description: Manufacturer Link; ComponentLink1URL: http://www.freescale.com/webapp/sps/site/taxonomy.jsp?nodeId=0162468rH311432451; ComponentLink2Description: Datasheet; ComponentLink2URL: http://www.freescale.com/files/32bit/doc/data_sheet/MAC7100EC.pdf; ComponentLink3Description: Packaging Specification; ComponentLink3URL: http://www.freescale.com/files/shared/doc/package_info/98ASS23177W.pdf
footprint 918-03_N (Thin QFP, 144-Leads, Body 20x20mm, Pitch 0.5mm, IPC Medium Density)
footprint 918-03_L (Thin QFP, 144-Leads, Body 20x20mm, Pitch 0.5mm, IPC High Density)
footprint 918-03_M (Thin QFP, 144-Leads, Body 20x20mm, Pitch 0.5mm, IPC Low Density)
part A pins: 1 PG4/CNTX_A (io), 2 PG5/CNRX_A (io), 3 PG8/CNTX_C (io), 4 PG9/CNRX_C (io), 5 PG10/CNTX_D (io), 6 PG11/CNRX_D (io), 7 PG6/CNTX_B (io), 8 PG7/CNRX_B (io), 9 PC0 (io), 10 PC1 (io), 11 PC2 (io), 12 PC3 (io), 15 PB0/SDA (io), 16 PB1/SCL (io), 17 PB2/SIN_A (io), 18 PB3/SOUT_A (io), 19 PB4/SCK_A (io), 20 PB5/PCS0_A/~{SS_A} (io), 21 PB6/PCS1_A (io), 22 PB7/PCS2_A (io), 23 PB8/PCS5_A/~{PCSS_A} (io), 24 PF15/eMIOS15/Debug Status (io), 25 PF14/eMIOS14/Debug Status (io), 26 PF13/eMIOS13/Debug Status (io), 27 PF12/eMIOS12/Debug Status (io), 28 PC4 (io), 29 PC5 (io), 30 PC6 (io), 31 PC7 (io), 32 PF11/eMIOS11/Debug Status (io), 33 PF10/eMIOS10/Debug Status (io), 34 PF9/eMIOS9/Debug Status (io), 35 PF8/eMIOS8/Debug Status (io), 36 PF7/eMIOS7/Debug Status (io), 37 PF6/eMIOS6/Debug Status (io), 38 PF5/eMIOS5/Debug Status (io), 39 PF4/eMIOS4/Debug Status (io), 40 PF3/eMIOS3/Debug Status (io), 41 PF2/eMIOS2/Debug Status (io), 42 PF1/eMIOS1/Debug Status/NEXPR (io), 43 PF0/eMIOS0/Debug Status/NEXPS (io), 44 PC8 (io), 45 PC9 (io), 46 PC10 (io), 47 PC11 (io), 51 PG12/RXD_D (io), 52 PG13/TXD_D (io), 65 PA15 (io), 66 PA14 (io), 67 PA13 (io), 68 PD11 (io), 69 PD12 (io), 70 PD0/MODB (io), 71 PD1/MODA (io), 72 PB9/PCS0_B/~{SS_B} (io), 73 PB10/PCS5_B/~{PCSS_B} (io), 74 PB11/PCS2_B (io), 75 PB12/PCS1_B (io), 76 PB13/SCK_B (io), 77 PB14/SOUT_B (io), 78 PB15/SIN_B (io), 80 PD2/CLKOUT/~{XCLKS} (io), 81 PD3/~{XIRQ} (io), 82 PD4/~{IRQ} (io), 83 PD13 (io), 84 PD14 (io), 85 PD15 (io), 88 PH0/AN0_B (io), 89 PE0/AN0_A/MCKO' (io), 90 PH1/AN1_B (io), 91 PE1/AN1_A/~{EVTO'} (io), 92 PH2/AN2_B (io), 93 PE2/AN2_A/~{EVTI'} (io), 94 PH3/AN3_B (io), 95 PE3/AN3_A/MDO0' (io), 96 PH4/AN4_B (io), 97 PE4/AN4_A/MDO1' (io), 98 PH5/AN5_B (io), 99 PE5/AN5_A/~{MSEO'} (io), 100 PH6/AN6_B (io), 101 PE6/AN6_A/~{RDY'} (io), 102 PH7/AN7_B (io), 103 PE7/AN7_A (io), 104 PH8/AN8_B (io), 105 PE8/AN8_A (io), 106 PH9/AN9_B (io), 107 PE9/AN9_A (io), 108 PH10/AN10_B (io), 113 PE10/AN10_A (io), 114 PH11/AN11_B (io), 115 PE11/AN11_A (io), 116 PH12/AN12_B (io), 117 PE12/AN12_A (io), 118 PH13/AN13_B (io), 119 PE13/AN13_A (io), 120 PH14/AN14_B (io), 121 PE14/AN14_A (io), 122 PH15/AN15_B (io), 123 PE15/AN15_A (io), 132 PA6/~{RDY} (io), 133 PA5/~{MSEO} (io), 134 PA4/MDO1 (io), 135 PA3/MDO0 (io), 136 PA2/~{EVTI} (io), 137 PA1/~{EVTO} (io), 138 PA0/MCKO (io), 139 PG14/RXD_C (io), 140 PG15/TXD_C (io), 141 PG0/RXD_B (io), 142 PG1/TXD_B (io), 143 PG2/RXD_A (io), 144 PG3/TXD_A (io)
part B pins: 48 ~{RESET} (in), 58 XFC (in), 60 EXTAL (in), 61 XTAL (out), 62 TEST (in), 110 VRH (power), 111 VRL (power)
part C pins: 128 TDI (in), 129 TDO (out), 130 TCK (in), 131 TMS (in)
part D pins: 13 VSSX (power), 14 VDDX (power), 49 VSSX (power), 50 VDDX (power), 53 VDD2.5 (power), 54 VSS2.5 (power), 55 VSSR (power), 56 VDDR (power), 57 VDDPLL (power), 59 VSSPLL (power), 63 VSSX (power), 64 VDDX (power), 79 VSSX (power), 86 VSSX (power), 87 VDDX (power), 109 VDDA (power), 112 VSSA (power), 124 VDDX (power), 125 VSSX (power), 126 VSS2.5 (power), 127 VDD2.5 (power)

## PAC7115MPV40
designator U?
32-Bit ARM7TDMI-S RISC Core, 768KB Program Flash EEPROM, 40KB RAM, 144-Pin LQFP; FunctionAvailability: AS & PD2 functions and Debug Status port not available on mask set L49P devices.; Published: 16-Oct-2006; DatasheetVersion: rev1.2, Feb-2006; PackageVersion: revF, May-2005; PackageReference: 918-03; Publisher: Altium Limited; PackageDescription: 144-Pin Low Profile Quad Flat Pack 0.5 mm Pitch (918-03); ComponentLink1Description: Manufacturer Link; ComponentLink1URL: http://www.freescale.com/webapp/sps/site/taxonomy.jsp?nodeId=0162468rH311432451; ComponentLink2Description: Datasheet; ComponentLink2URL: http://www.freescale.com/files/32bit/doc/data_sheet/MAC7100EC.pdf; ComponentLink3Description: Packaging Specification; ComponentLink3URL: http://www.freescale.com/files/shared/doc/package_info/98ASS23177W.pdf
footprint 918-03_N (Thin QFP, 144-Leads, Body 20x20mm, Pitch 0.5mm, IPC Medium Density)
footprint 918-03_L (Thin QFP, 144-Leads, Body 20x20mm, Pitch 0.5mm, IPC High Density)
footprint 918-03_M (Thin QFP, 144-Leads, Body 20x20mm, Pitch 0.5mm, IPC Low Density)
part A pins: 1 PG4/CNTX_A (io), 2 PG5/CNRX_A (io), 3 PG8/CNTX_C (io), 4 PG9/CNRX_C (io), 5 PG10/CNTX_D (io), 6 PG11/CNRX_D (io), 7 PG6/CNTX_B (io), 8 PG7/CNRX_B (io), 9 PC0/ADDR0 (io), 10 PC1/ADDR1 (io), 11 PC2/ADDR2 (io), 12 PC3/ADDR3 (io), 15 PB0/SDA (io), 16 PB1/SCL (io), 17 PB2/SIN_A (io), 18 PB3/SOUT_A (io), 19 PB4/SCK_A (io), 20 PB5/PCS0_A/~{SS_A} (io), 21 PB6/PCS1_A (io), 22 PB7/PCS2_A (io), 23 PB8/PCS5_A/~{PCSS_A} (io), 24 PF15/eMIOS15/Debug Status (io), 25 PF14/eMIOS14/Debug Status (io), 26 PF13/eMIOS13/Debug Status (io), 27 PF12/eMIOS12/Debug Status (io), 28 PC4/ADDR4 (io), 29 PC5/ADDR5 (io), 30 PC6/ADDR6 (io), 31 PC7/ADDR7 (io), 32 PF11/eMIOS11/Debug Status (io), 33 PF10/eMIOS10/Debug Status (io), 34 PF9/eMIOS9/Debug Status (io), 35 PF8/eMIOS8/Debug Status (io), 36 PF7/eMIOS7/Debug Status (io), 37 PF6/eMIOS6/Debug Status (io), 38 PF5/eMIOS5/Debug Status (io), 39 PF4/eMIOS4/Debug Status (io), 40 PF3/eMIOS3/Debug Status (io), 41 PF2/eMIOS2/Debug Status (io), 42 PF1/eMIOS1/Debug Status/NEXPR (io), 43 PF0/eMIOS0/Debug Status/NEXPS (io), 44 PC8/ADDR8 (io), 45 PC9/ADDR9 (io), 46 PC10/ADDR10 (io), 47 PC11/ADDR11 (io), 51 PG12/RXD_D (io), 52 PG13/TXD_D (io), 65 PA15/DATA15/~{AA} (io), 66 PA14/DATA14/~{PS} (io), 67 PA13/DATA13 (io), 68 PD11/~{OE} (io), 69 PD12/~{CS2} (io), 70 PD0/~{BS0}/MODB (io), 71 PD1/~{BS1}/MODA (io), 72 PB9/PCS0_B/~{SS_B} (io), 73 PB10/PCS5_B/~{PCSS_B} (io), 74 PB11/PCS2_B (io), 75 PB12/PCS1_B (io), 76 PB13/SCK_B (io), 77 PB14/SOUT_B (io), 78 PB15/SIN_B (io), 80 PD2/CLKOUT/~{XCLKS} (io), 81 PD3/~{XIRQ} (io), 82 PD4/~{IRQ} (io), 83 PD13/~{CS1} (io), 84 PD14/~{CS0} (io), 85 PD15/R/~{W} (io), 88 PC12/ADDR12 (io), 89 PC13/ADDR13 (io), 90 PC14/ADDR14 (io), 91 PC15/ADDR15 (io), 92 PD5/ADDR16 (io), 93 PA12/DATA12 (io), 94 PA11/DATA11 (io), 95 PA10/DATA10 (io), 96 PA9/DATA9 (io), 97 PA8/DATA8 (io), 98 PA7/DATA7 (io), 99 PE0/AN0_A/MCKO' (io), 100 PE1/AN1_A/~{EVTO'} (io), 101 PE2/AN2_A/~{EVTI'} (io), 102 PE3/AN3_A/MDO0' (io), 103 PE4/AN4_A/MDO1' (io), 104 PE5/AN5_A/~{MSEO'} (io), 105 PE6/AN6_A/~{RDY'} (io), 106 PE7/AN7_A (io), 107 PE8/AN8_A (io), 108 PE9/AN9_A (io), 113 PE10/AN10_A (io), 114 PE11/AN11_A (io), 115 PE12/AN12_A (io), 116 PE13/AN13_A (io), 117 PE14/AN14_A (io), 118 PE15/AN15_A (io), 119 PD6/ADDR17 (io), 120 PD7/ADDR18 (io), 121 PD8/ADDR19 (io), 122 PD9/ADDR20 (io), 123 PD10/ADDR21 (io), 132 PA6/DATA6/~{RDY} (io), 133 PA5/DATA5/~{MSEO} (io), 134 PA4/DATA4/MDO1 (io), 135 PA3/DATA3/MDO0 (io), 136 PA2/DATA2/~{EVTI} (io), 137 PA1/DATA1/~{EVTO} (io), 138 PA0/DATA0/MCKO (io), 139 PG14/RXD_C (io), 140 PG15/TXD_C (io), 141 PG0/RXD_B (io), 142 PG1/TXD_B (io), 143 PG2/RXD_A (io), 144 PG3/TXD_A (io)
part B pins: 48 ~{RESET} (in), 58 XFC (in), 60 EXTAL (in), 61 XTAL (out), 62 TEST (in), 79 ~{TA}/~{AS} (io), 110 VRH (power), 111 VRL (power)
part C pins: 128 TDI (in), 129 TDO (out), 130 TCK (in), 131 TMS (in)
part D pins: 13 VSSX (power), 14 VDDX (power), 49 VSSX (power), 50 VDDX (power), 53 VDD2.5 (power), 54 VSS2.5 (power), 55 VSSR (power), 56 VDDR (power), 57 VDDPLL (power), 59 VSSPLL (power), 63 VSSX (power), 64 VDDX (power), 86 VSSX (power), 87 VDDX (power), 109 VDDA (power), 112 VSSA (power), 124 VDDX (power), 125 VSSX (power), 126 VSS2.5 (power), 127 VDD2.5 (power)

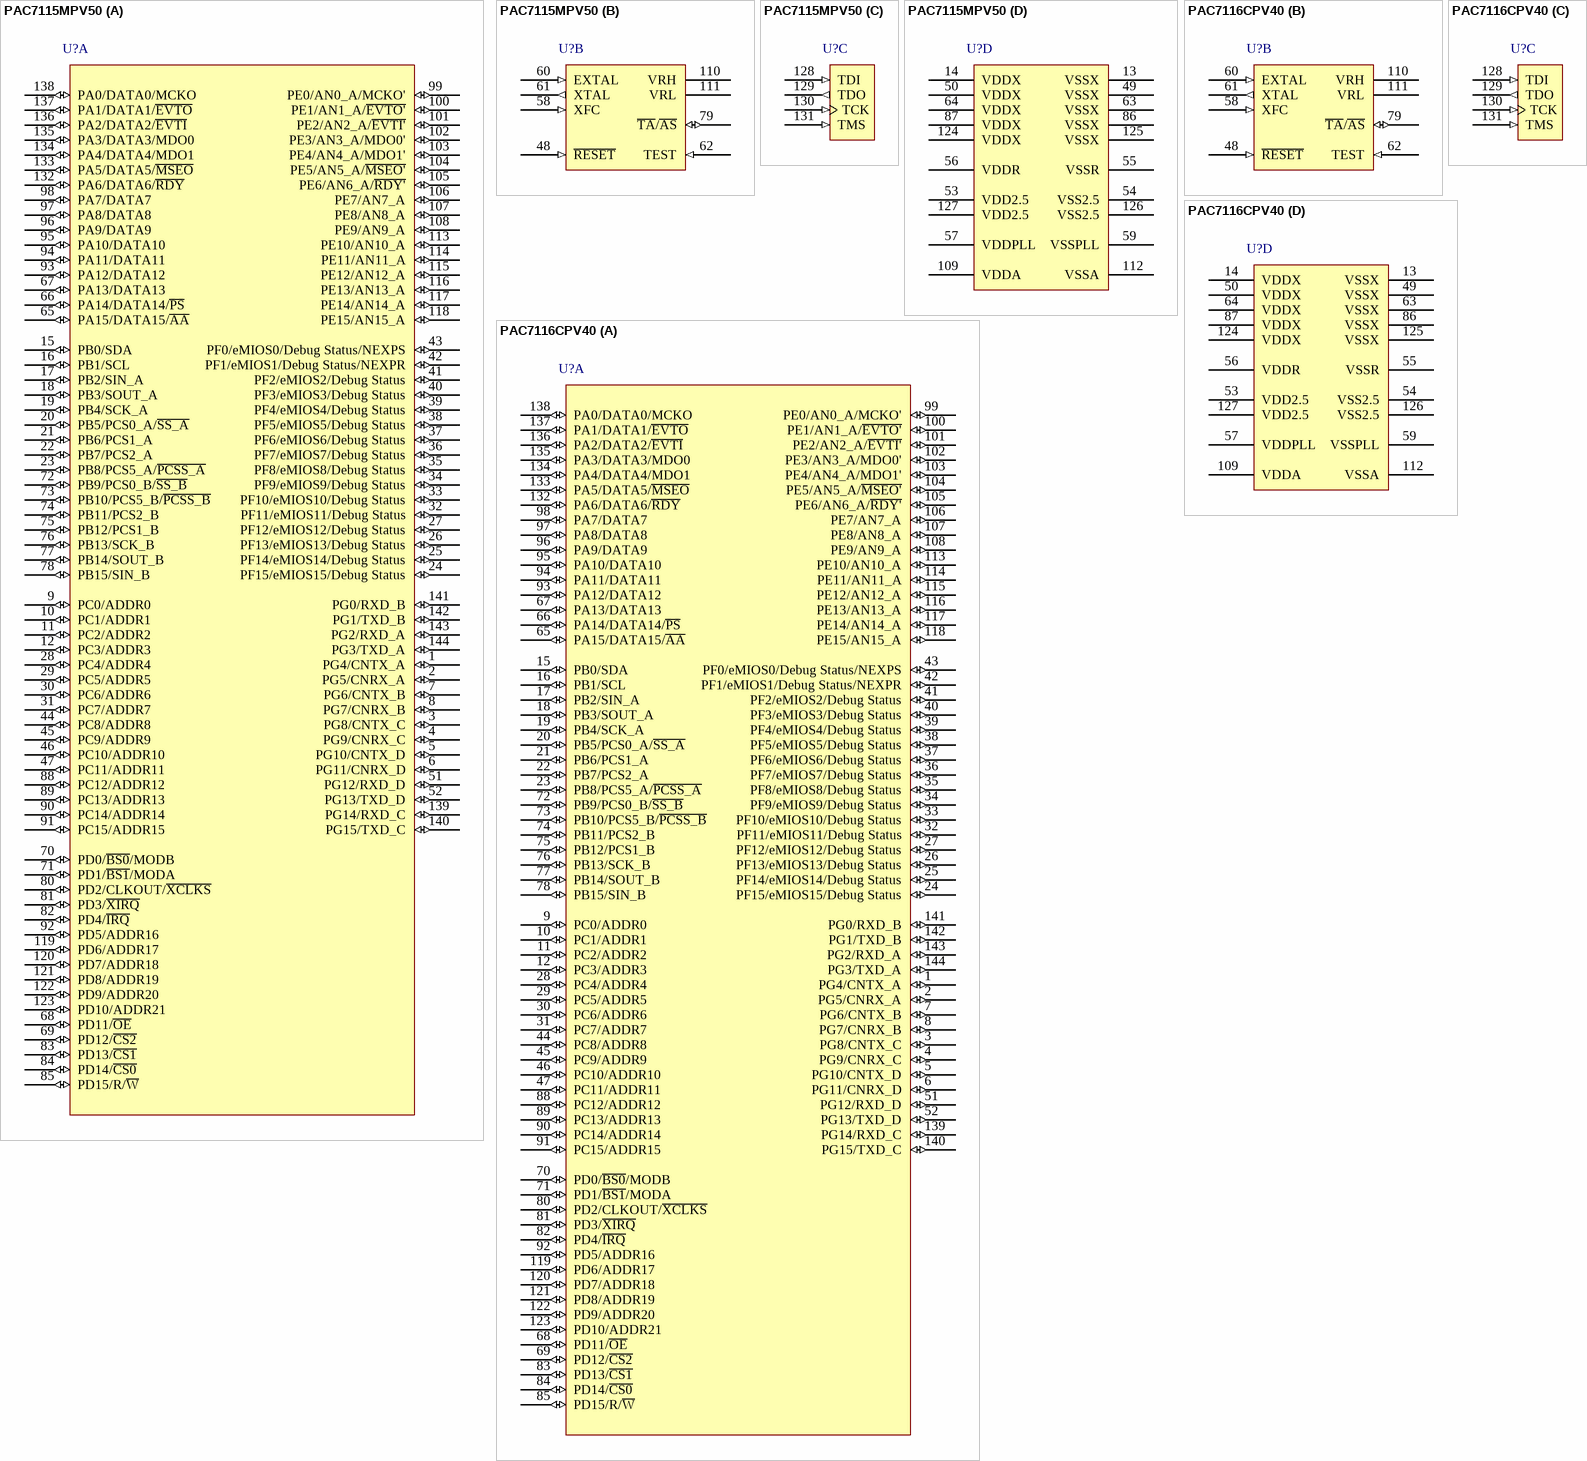
[diagram p28: symbols PAC7115MPV50 to PAC7116CPV40]

## PAC7115MPV50
designator U?
32-Bit ARM7TDMI-S RISC Core, 768KB Program Flash EEPROM, 40KB RAM, 144-Pin LQFP; FunctionAvailability: AS & PD2 functions and Debug Status port not available on mask set L49P devices.; Published: 16-Oct-2006; DatasheetVersion: rev1.2, Feb-2006; PackageVersion: revF, May-2005; PackageReference: 918-03; Publisher: Altium Limited; PackageDescription: 144-Pin Low Profile Quad Flat Pack 0.5 mm Pitch (918-03); ComponentLink1Description: Manufacturer Link; ComponentLink1URL: http://www.freescale.com/webapp/sps/site/taxonomy.jsp?nodeId=0162468rH311432451; ComponentLink2Description: Datasheet; ComponentLink2URL: http://www.freescale.com/files/32bit/doc/data_sheet/MAC7100EC.pdf; ComponentLink3Description: Packaging Specification; ComponentLink3URL: http://www.freescale.com/files/shared/doc/package_info/98ASS23177W.pdf
footprint 918-03_N (Thin QFP, 144-Leads, Body 20x20mm, Pitch 0.5mm, IPC Medium Density)
footprint 918-03_L (Thin QFP, 144-Leads, Body 20x20mm, Pitch 0.5mm, IPC High Density)
footprint 918-03_M (Thin QFP, 144-Leads, Body 20x20mm, Pitch 0.5mm, IPC Low Density)
part A pins: 1 PG4/CNTX_A (io), 2 PG5/CNRX_A (io), 3 PG8/CNTX_C (io), 4 PG9/CNRX_C (io), 5 PG10/CNTX_D (io), 6 PG11/CNRX_D (io), 7 PG6/CNTX_B (io), 8 PG7/CNRX_B (io), 9 PC0/ADDR0 (io), 10 PC1/ADDR1 (io), 11 PC2/ADDR2 (io), 12 PC3/ADDR3 (io), 15 PB0/SDA (io), 16 PB1/SCL (io), 17 PB2/SIN_A (io), 18 PB3/SOUT_A (io), 19 PB4/SCK_A (io), 20 PB5/PCS0_A/~{SS_A} (io), 21 PB6/PCS1_A (io), 22 PB7/PCS2_A (io), 23 PB8/PCS5_A/~{PCSS_A} (io), 24 PF15/eMIOS15/Debug Status (io), 25 PF14/eMIOS14/Debug Status (io), 26 PF13/eMIOS13/Debug Status (io), 27 PF12/eMIOS12/Debug Status (io), 28 PC4/ADDR4 (io), 29 PC5/ADDR5 (io), 30 PC6/ADDR6 (io), 31 PC7/ADDR7 (io), 32 PF11/eMIOS11/Debug Status (io), 33 PF10/eMIOS10/Debug Status (io), 34 PF9/eMIOS9/Debug Status (io), 35 PF8/eMIOS8/Debug Status (io), 36 PF7/eMIOS7/Debug Status (io), 37 PF6/eMIOS6/Debug Status (io), 38 PF5/eMIOS5/Debug Status (io), 39 PF4/eMIOS4/Debug Status (io), 40 PF3/eMIOS3/Debug Status (io), 41 PF2/eMIOS2/Debug Status (io), 42 PF1/eMIOS1/Debug Status/NEXPR (io), 43 PF0/eMIOS0/Debug Status/NEXPS (io), 44 PC8/ADDR8 (io), 45 PC9/ADDR9 (io), 46 PC10/ADDR10 (io), 47 PC11/ADDR11 (io), 51 PG12/RXD_D (io), 52 PG13/TXD_D (io), 65 PA15/DATA15/~{AA} (io), 66 PA14/DATA14/~{PS} (io), 67 PA13/DATA13 (io), 68 PD11/~{OE} (io), 69 PD12/~{CS2} (io), 70 PD0/~{BS0}/MODB (io), 71 PD1/~{BS1}/MODA (io), 72 PB9/PCS0_B/~{SS_B} (io), 73 PB10/PCS5_B/~{PCSS_B} (io), 74 PB11/PCS2_B (io), 75 PB12/PCS1_B (io), 76 PB13/SCK_B (io), 77 PB14/SOUT_B (io), 78 PB15/SIN_B (io), 80 PD2/CLKOUT/~{XCLKS} (io), 81 PD3/~{XIRQ} (io), 82 PD4/~{IRQ} (io), 83 PD13/~{CS1} (io), 84 PD14/~{CS0} (io), 85 PD15/R/~{W} (io), 88 PC12/ADDR12 (io), 89 PC13/ADDR13 (io), 90 PC14/ADDR14 (io), 91 PC15/ADDR15 (io), 92 PD5/ADDR16 (io), 93 PA12/DATA12 (io), 94 PA11/DATA11 (io), 95 PA10/DATA10 (io), 96 PA9/DATA9 (io), 97 PA8/DATA8 (io), 98 PA7/DATA7 (io), 99 PE0/AN0_A/MCKO' (io), 100 PE1/AN1_A/~{EVTO'} (io), 101 PE2/AN2_A/~{EVTI'} (io), 102 PE3/AN3_A/MDO0' (io), 103 PE4/AN4_A/MDO1' (io), 104 PE5/AN5_A/~{MSEO'} (io), 105 PE6/AN6_A/~{RDY'} (io), 106 PE7/AN7_A (io), 107 PE8/AN8_A (io), 108 PE9/AN9_A (io), 113 PE10/AN10_A (io), 114 PE11/AN11_A (io), 115 PE12/AN12_A (io), 116 PE13/AN13_A (io), 117 PE14/AN14_A (io), 118 PE15/AN15_A (io), 119 PD6/ADDR17 (io), 120 PD7/ADDR18 (io), 121 PD8/ADDR19 (io), 122 PD9/ADDR20 (io), 123 PD10/ADDR21 (io), 132 PA6/DATA6/~{RDY} (io), 133 PA5/DATA5/~{MSEO} (io), 134 PA4/DATA4/MDO1 (io), 135 PA3/DATA3/MDO0 (io), 136 PA2/DATA2/~{EVTI} (io), 137 PA1/DATA1/~{EVTO} (io), 138 PA0/DATA0/MCKO (io), 139 PG14/RXD_C (io), 140 PG15/TXD_C (io), 141 PG0/RXD_B (io), 142 PG1/TXD_B (io), 143 PG2/RXD_A (io), 144 PG3/TXD_A (io)
part B pins: 48 ~{RESET} (in), 58 XFC (in), 60 EXTAL (in), 61 XTAL (out), 62 TEST (in), 79 ~{TA}/~{AS} (io), 110 VRH (power), 111 VRL (power)
part C pins: 128 TDI (in), 129 TDO (out), 130 TCK (in), 131 TMS (in)
part D pins: 13 VSSX (power), 14 VDDX (power), 49 VSSX (power), 50 VDDX (power), 53 VDD2.5 (power), 54 VSS2.5 (power), 55 VSSR (power), 56 VDDR (power), 57 VDDPLL (power), 59 VSSPLL (power), 63 VSSX (power), 64 VDDX (power), 86 VSSX (power), 87 VDDX (power), 109 VDDA (power), 112 VSSA (power), 124 VDDX (power), 125 VSSX (power), 126 VSS2.5 (power), 127 VDD2.5 (power)

## PAC7116CPV40
designator U?
32-Bit ARM7TDMI-S RISC Core, 1MB Program Flash EEPROM, 48KB RAM, 144-Pin LQFP; FunctionAvailability: AS & PD2 functions and Debug Status port not available on mask set L49P devices.; Published: 16-Oct-2006; DatasheetVersion: rev1.2, Feb-2006; PackageVersion: revF, May-2005; PackageReference: 918-03; Publisher: Altium Limited; PackageDescription: 144-Pin Low Profile Quad Flat Pack 0.5 mm Pitch (918-03); ComponentLink1Description: Manufacturer Link; ComponentLink1URL: http://www.freescale.com/webapp/sps/site/taxonomy.jsp?nodeId=0162468rH311432451; ComponentLink2Description: Datasheet; ComponentLink2URL: http://www.freescale.com/files/32bit/doc/data_sheet/MAC7100EC.pdf; ComponentLink3Description: Packaging Specification; ComponentLink3URL: http://www.freescale.com/files/shared/doc/package_info/98ASS23177W.pdf
footprint 918-03_N (Thin QFP, 144-Leads, Body 20x20mm, Pitch 0.5mm, IPC Medium Density)
footprint 918-03_L (Thin QFP, 144-Leads, Body 20x20mm, Pitch 0.5mm, IPC High Density)
footprint 918-03_M (Thin QFP, 144-Leads, Body 20x20mm, Pitch 0.5mm, IPC Low Density)
part A pins: 1 PG4/CNTX_A (io), 2 PG5/CNRX_A (io), 3 PG8/CNTX_C (io), 4 PG9/CNRX_C (io), 5 PG10/CNTX_D (io), 6 PG11/CNRX_D (io), 7 PG6/CNTX_B (io), 8 PG7/CNRX_B (io), 9 PC0/ADDR0 (io), 10 PC1/ADDR1 (io), 11 PC2/ADDR2 (io), 12 PC3/ADDR3 (io), 15 PB0/SDA (io), 16 PB1/SCL (io), 17 PB2/SIN_A (io), 18 PB3/SOUT_A (io), 19 PB4/SCK_A (io), 20 PB5/PCS0_A/~{SS_A} (io), 21 PB6/PCS1_A (io), 22 PB7/PCS2_A (io), 23 PB8/PCS5_A/~{PCSS_A} (io), 24 PF15/eMIOS15/Debug Status (io), 25 PF14/eMIOS14/Debug Status (io), 26 PF13/eMIOS13/Debug Status (io), 27 PF12/eMIOS12/Debug Status (io), 28 PC4/ADDR4 (io), 29 PC5/ADDR5 (io), 30 PC6/ADDR6 (io), 31 PC7/ADDR7 (io), 32 PF11/eMIOS11/Debug Status (io), 33 PF10/eMIOS10/Debug Status (io), 34 PF9/eMIOS9/Debug Status (io), 35 PF8/eMIOS8/Debug Status (io), 36 PF7/eMIOS7/Debug Status (io), 37 PF6/eMIOS6/Debug Status (io), 38 PF5/eMIOS5/Debug Status (io), 39 PF4/eMIOS4/Debug Status (io), 40 PF3/eMIOS3/Debug Status (io), 41 PF2/eMIOS2/Debug Status (io), 42 PF1/eMIOS1/Debug Status/NEXPR (io), 43 PF0/eMIOS0/Debug Status/NEXPS (io), 44 PC8/ADDR8 (io), 45 PC9/ADDR9 (io), 46 PC10/ADDR10 (io), 47 PC11/ADDR11 (io), 51 PG12/RXD_D (io), 52 PG13/TXD_D (io), 65 PA15/DATA15/~{AA} (io), 66 PA14/DATA14/~{PS} (io), 67 PA13/DATA13 (io), 68 PD11/~{OE} (io), 69 PD12/~{CS2} (io), 70 PD0/~{BS0}/MODB (io), 71 PD1/~{BS1}/MODA (io), 72 PB9/PCS0_B/~{SS_B} (io), 73 PB10/PCS5_B/~{PCSS_B} (io), 74 PB11/PCS2_B (io), 75 PB12/PCS1_B (io), 76 PB13/SCK_B (io), 77 PB14/SOUT_B (io), 78 PB15/SIN_B (io), 80 PD2/CLKOUT/~{XCLKS} (io), 81 PD3/~{XIRQ} (io), 82 PD4/~{IRQ} (io), 83 PD13/~{CS1} (io), 84 PD14/~{CS0} (io), 85 PD15/R/~{W} (io), 88 PC12/ADDR12 (io), 89 PC13/ADDR13 (io), 90 PC14/ADDR14 (io), 91 PC15/ADDR15 (io), 92 PD5/ADDR16 (io), 93 PA12/DATA12 (io), 94 PA11/DATA11 (io), 95 PA10/DATA10 (io), 96 PA9/DATA9 (io), 97 PA8/DATA8 (io), 98 PA7/DATA7 (io), 99 PE0/AN0_A/MCKO' (io), 100 PE1/AN1_A/~{EVTO'} (io), 101 PE2/AN2_A/~{EVTI'} (io), 102 PE3/AN3_A/MDO0' (io), 103 PE4/AN4_A/MDO1' (io), 104 PE5/AN5_A/~{MSEO'} (io), 105 PE6/AN6_A/~{RDY'} (io), 106 PE7/AN7_A (io), 107 PE8/AN8_A (io), 108 PE9/AN9_A (io), 113 PE10/AN10_A (io), 114 PE11/AN11_A (io), 115 PE12/AN12_A (io), 116 PE13/AN13_A (io), 117 PE14/AN14_A (io), 118 PE15/AN15_A (io), 119 PD6/ADDR17 (io), 120 PD7/ADDR18 (io), 121 PD8/ADDR19 (io), 122 PD9/ADDR20 (io), 123 PD10/ADDR21 (io), 132 PA6/DATA6/~{RDY} (io), 133 PA5/DATA5/~{MSEO} (io), 134 PA4/DATA4/MDO1 (io), 135 PA3/DATA3/MDO0 (io), 136 PA2/DATA2/~{EVTI} (io), 137 PA1/DATA1/~{EVTO} (io), 138 PA0/DATA0/MCKO (io), 139 PG14/RXD_C (io), 140 PG15/TXD_C (io), 141 PG0/RXD_B (io), 142 PG1/TXD_B (io), 143 PG2/RXD_A (io), 144 PG3/TXD_A (io)
part B pins: 48 ~{RESET} (in), 58 XFC (in), 60 EXTAL (in), 61 XTAL (out), 62 TEST (in), 79 ~{TA}/~{AS} (io), 110 VRH (power), 111 VRL (power)
part C pins: 128 TDI (in), 129 TDO (out), 130 TCK (in), 131 TMS (in)
part D pins: 13 VSSX (power), 14 VDDX (power), 49 VSSX (power), 50 VDDX (power), 53 VDD2.5 (power), 54 VSS2.5 (power), 55 VSSR (power), 56 VDDR (power), 57 VDDPLL (power), 59 VSSPLL (power), 63 VSSX (power), 64 VDDX (power), 86 VSSX (power), 87 VDDX (power), 109 VDDA (power), 112 VSSA (power), 124 VDDX (power), 125 VSSX (power), 126 VSS2.5 (power), 127 VDD2.5 (power)

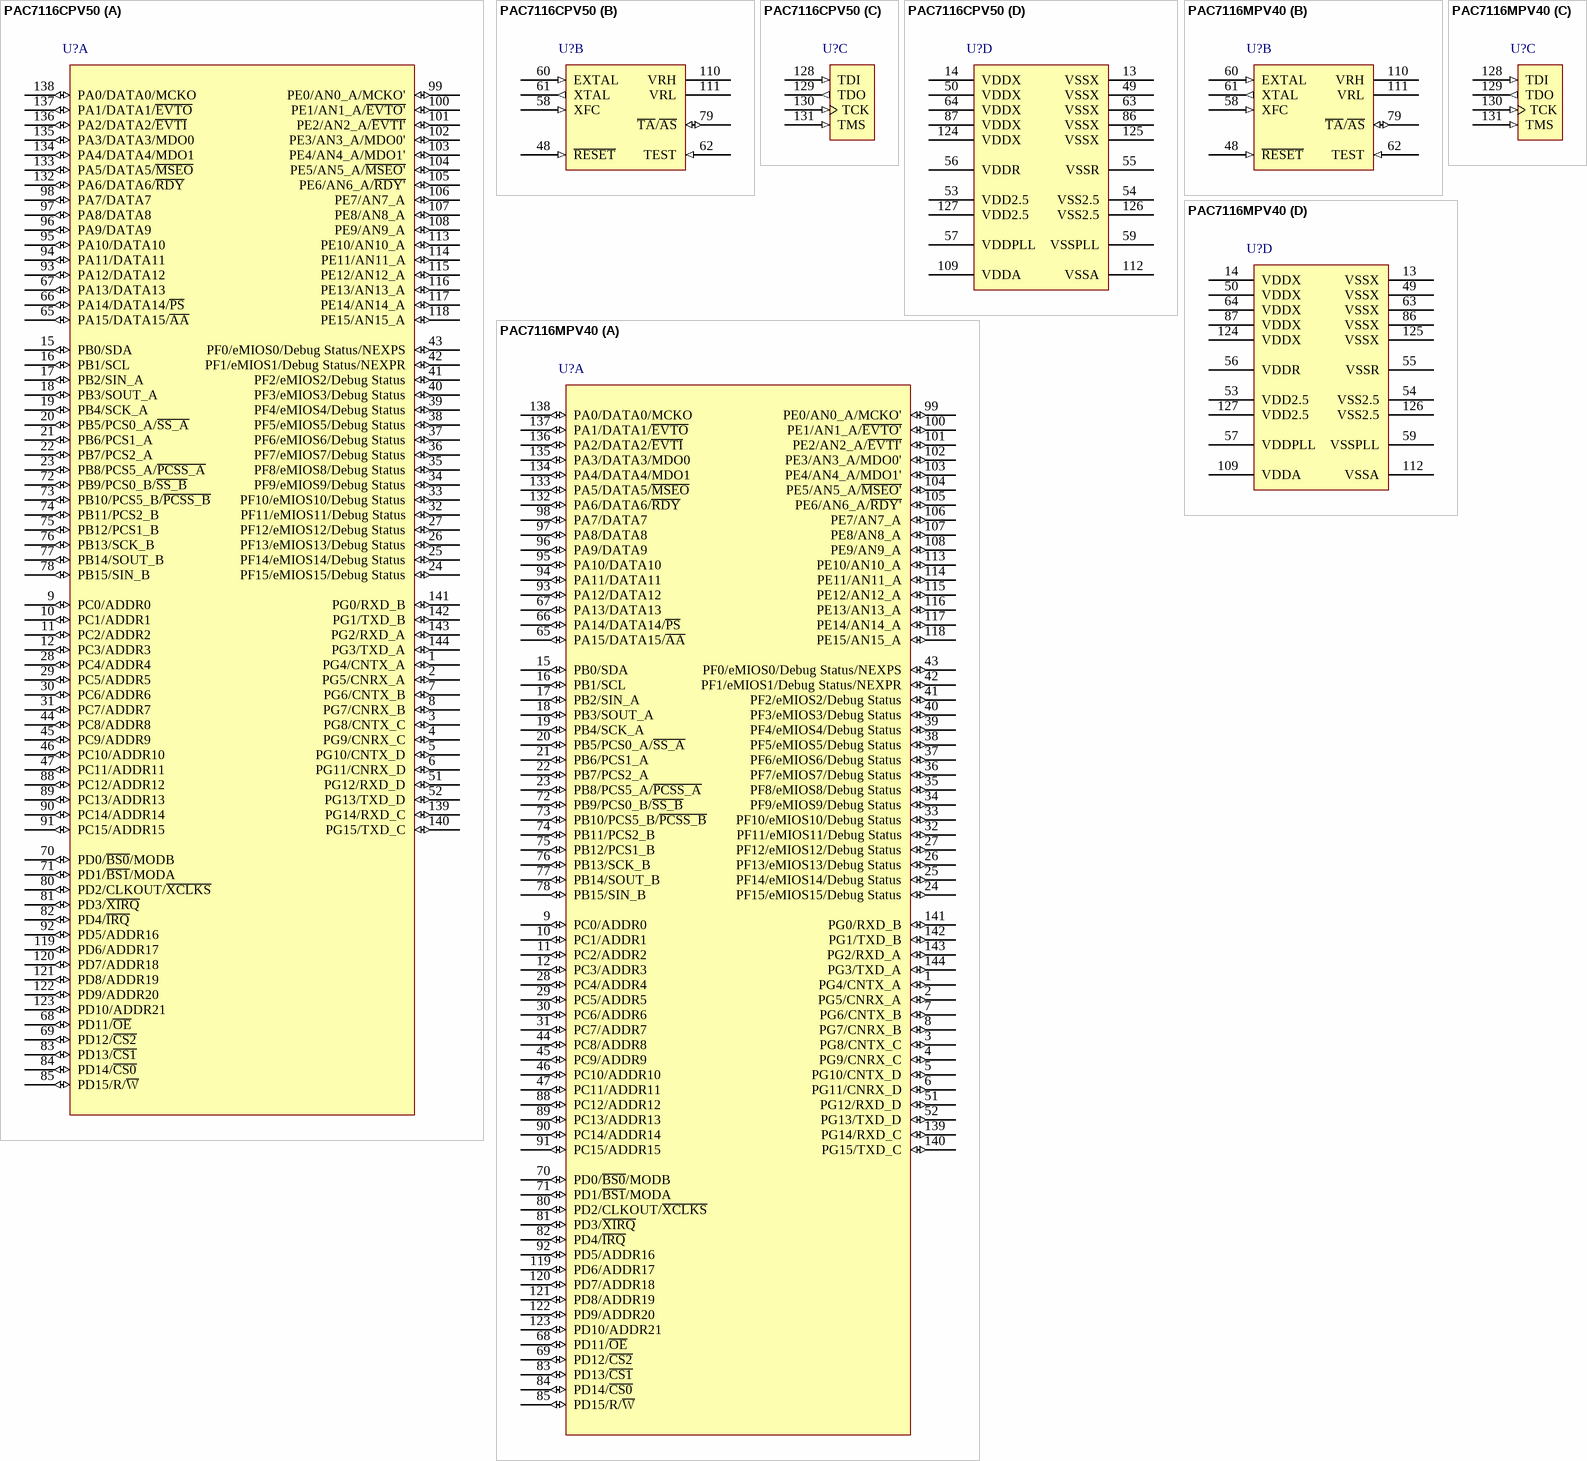
[diagram p29: symbols PAC7116CPV50 to PAC7116MPV40]

## PAC7116CPV50
designator U?
32-Bit ARM7TDMI-S RISC Core, 1MB Program Flash EEPROM, 48KB RAM, 144-Pin LQFP; FunctionAvailability: AS & PD2 functions and Debug Status port not available on mask set L49P devices.; Published: 16-Oct-2006; DatasheetVersion: rev1.2, Feb-2006; PackageVersion: revF, May-2005; PackageReference: 918-03; Publisher: Altium Limited; PackageDescription: 144-Pin Low Profile Quad Flat Pack 0.5 mm Pitch (918-03); ComponentLink1Description: Manufacturer Link; ComponentLink1URL: http://www.freescale.com/webapp/sps/site/taxonomy.jsp?nodeId=0162468rH311432451; ComponentLink2Description: Datasheet; ComponentLink2URL: http://www.freescale.com/files/32bit/doc/data_sheet/MAC7100EC.pdf; ComponentLink3Description: Packaging Specification; ComponentLink3URL: http://www.freescale.com/files/shared/doc/package_info/98ASS23177W.pdf
footprint 918-03_N (Thin QFP, 144-Leads, Body 20x20mm, Pitch 0.5mm, IPC Medium Density)
footprint 918-03_L (Thin QFP, 144-Leads, Body 20x20mm, Pitch 0.5mm, IPC High Density)
footprint 918-03_M (Thin QFP, 144-Leads, Body 20x20mm, Pitch 0.5mm, IPC Low Density)
part A pins: 1 PG4/CNTX_A (io), 2 PG5/CNRX_A (io), 3 PG8/CNTX_C (io), 4 PG9/CNRX_C (io), 5 PG10/CNTX_D (io), 6 PG11/CNRX_D (io), 7 PG6/CNTX_B (io), 8 PG7/CNRX_B (io), 9 PC0/ADDR0 (io), 10 PC1/ADDR1 (io), 11 PC2/ADDR2 (io), 12 PC3/ADDR3 (io), 15 PB0/SDA (io), 16 PB1/SCL (io), 17 PB2/SIN_A (io), 18 PB3/SOUT_A (io), 19 PB4/SCK_A (io), 20 PB5/PCS0_A/~{SS_A} (io), 21 PB6/PCS1_A (io), 22 PB7/PCS2_A (io), 23 PB8/PCS5_A/~{PCSS_A} (io), 24 PF15/eMIOS15/Debug Status (io), 25 PF14/eMIOS14/Debug Status (io), 26 PF13/eMIOS13/Debug Status (io), 27 PF12/eMIOS12/Debug Status (io), 28 PC4/ADDR4 (io), 29 PC5/ADDR5 (io), 30 PC6/ADDR6 (io), 31 PC7/ADDR7 (io), 32 PF11/eMIOS11/Debug Status (io), 33 PF10/eMIOS10/Debug Status (io), 34 PF9/eMIOS9/Debug Status (io), 35 PF8/eMIOS8/Debug Status (io), 36 PF7/eMIOS7/Debug Status (io), 37 PF6/eMIOS6/Debug Status (io), 38 PF5/eMIOS5/Debug Status (io), 39 PF4/eMIOS4/Debug Status (io), 40 PF3/eMIOS3/Debug Status (io), 41 PF2/eMIOS2/Debug Status (io), 42 PF1/eMIOS1/Debug Status/NEXPR (io), 43 PF0/eMIOS0/Debug Status/NEXPS (io), 44 PC8/ADDR8 (io), 45 PC9/ADDR9 (io), 46 PC10/ADDR10 (io), 47 PC11/ADDR11 (io), 51 PG12/RXD_D (io), 52 PG13/TXD_D (io), 65 PA15/DATA15/~{AA} (io), 66 PA14/DATA14/~{PS} (io), 67 PA13/DATA13 (io), 68 PD11/~{OE} (io), 69 PD12/~{CS2} (io), 70 PD0/~{BS0}/MODB (io), 71 PD1/~{BS1}/MODA (io), 72 PB9/PCS0_B/~{SS_B} (io), 73 PB10/PCS5_B/~{PCSS_B} (io), 74 PB11/PCS2_B (io), 75 PB12/PCS1_B (io), 76 PB13/SCK_B (io), 77 PB14/SOUT_B (io), 78 PB15/SIN_B (io), 80 PD2/CLKOUT/~{XCLKS} (io), 81 PD3/~{XIRQ} (io), 82 PD4/~{IRQ} (io), 83 PD13/~{CS1} (io), 84 PD14/~{CS0} (io), 85 PD15/R/~{W} (io), 88 PC12/ADDR12 (io), 89 PC13/ADDR13 (io), 90 PC14/ADDR14 (io), 91 PC15/ADDR15 (io), 92 PD5/ADDR16 (io), 93 PA12/DATA12 (io), 94 PA11/DATA11 (io), 95 PA10/DATA10 (io), 96 PA9/DATA9 (io), 97 PA8/DATA8 (io), 98 PA7/DATA7 (io), 99 PE0/AN0_A/MCKO' (io), 100 PE1/AN1_A/~{EVTO'} (io), 101 PE2/AN2_A/~{EVTI'} (io), 102 PE3/AN3_A/MDO0' (io), 103 PE4/AN4_A/MDO1' (io), 104 PE5/AN5_A/~{MSEO'} (io), 105 PE6/AN6_A/~{RDY'} (io), 106 PE7/AN7_A (io), 107 PE8/AN8_A (io), 108 PE9/AN9_A (io), 113 PE10/AN10_A (io), 114 PE11/AN11_A (io), 115 PE12/AN12_A (io), 116 PE13/AN13_A (io), 117 PE14/AN14_A (io), 118 PE15/AN15_A (io), 119 PD6/ADDR17 (io), 120 PD7/ADDR18 (io), 121 PD8/ADDR19 (io), 122 PD9/ADDR20 (io), 123 PD10/ADDR21 (io), 132 PA6/DATA6/~{RDY} (io), 133 PA5/DATA5/~{MSEO} (io), 134 PA4/DATA4/MDO1 (io), 135 PA3/DATA3/MDO0 (io), 136 PA2/DATA2/~{EVTI} (io), 137 PA1/DATA1/~{EVTO} (io), 138 PA0/DATA0/MCKO (io), 139 PG14/RXD_C (io), 140 PG15/TXD_C (io), 141 PG0/RXD_B (io), 142 PG1/TXD_B (io), 143 PG2/RXD_A (io), 144 PG3/TXD_A (io)
part B pins: 48 ~{RESET} (in), 58 XFC (in), 60 EXTAL (in), 61 XTAL (out), 62 TEST (in), 79 ~{TA}/~{AS} (io), 110 VRH (power), 111 VRL (power)
part C pins: 128 TDI (in), 129 TDO (out), 130 TCK (in), 131 TMS (in)
part D pins: 13 VSSX (power), 14 VDDX (power), 49 VSSX (power), 50 VDDX (power), 53 VDD2.5 (power), 54 VSS2.5 (power), 55 VSSR (power), 56 VDDR (power), 57 VDDPLL (power), 59 VSSPLL (power), 63 VSSX (power), 64 VDDX (power), 86 VSSX (power), 87 VDDX (power), 109 VDDA (power), 112 VSSA (power), 124 VDDX (power), 125 VSSX (power), 126 VSS2.5 (power), 127 VDD2.5 (power)

## PAC7116MPV40
designator U?
32-Bit ARM7TDMI-S RISC Core, 1MB Program Flash EEPROM, 48KB RAM, 144-Pin LQFP; FunctionAvailability: AS & PD2 functions and Debug Status port not available on mask set L49P devices.; Published: 16-Oct-2006; DatasheetVersion: rev1.2, Feb-2006; PackageVersion: revF, May-2005; PackageReference: 918-03; Publisher: Altium Limited; PackageDescription: 144-Pin Low Profile Quad Flat Pack 0.5 mm Pitch (918-03); ComponentLink1Description: Manufacturer Link; ComponentLink1URL: http://www.freescale.com/webapp/sps/site/taxonomy.jsp?nodeId=0162468rH311432451; ComponentLink2Description: Datasheet; ComponentLink2URL: http://www.freescale.com/files/32bit/doc/data_sheet/MAC7100EC.pdf; ComponentLink3Description: Packaging Specification; ComponentLink3URL: http://www.freescale.com/files/shared/doc/package_info/98ASS23177W.pdf
footprint 918-03_N (Thin QFP, 144-Leads, Body 20x20mm, Pitch 0.5mm, IPC Medium Density)
footprint 918-03_L (Thin QFP, 144-Leads, Body 20x20mm, Pitch 0.5mm, IPC High Density)
footprint 918-03_M (Thin QFP, 144-Leads, Body 20x20mm, Pitch 0.5mm, IPC Low Density)
part A pins: 1 PG4/CNTX_A (io), 2 PG5/CNRX_A (io), 3 PG8/CNTX_C (io), 4 PG9/CNRX_C (io), 5 PG10/CNTX_D (io), 6 PG11/CNRX_D (io), 7 PG6/CNTX_B (io), 8 PG7/CNRX_B (io), 9 PC0/ADDR0 (io), 10 PC1/ADDR1 (io), 11 PC2/ADDR2 (io), 12 PC3/ADDR3 (io), 15 PB0/SDA (io), 16 PB1/SCL (io), 17 PB2/SIN_A (io), 18 PB3/SOUT_A (io), 19 PB4/SCK_A (io), 20 PB5/PCS0_A/~{SS_A} (io), 21 PB6/PCS1_A (io), 22 PB7/PCS2_A (io), 23 PB8/PCS5_A/~{PCSS_A} (io), 24 PF15/eMIOS15/Debug Status (io), 25 PF14/eMIOS14/Debug Status (io), 26 PF13/eMIOS13/Debug Status (io), 27 PF12/eMIOS12/Debug Status (io), 28 PC4/ADDR4 (io), 29 PC5/ADDR5 (io), 30 PC6/ADDR6 (io), 31 PC7/ADDR7 (io), 32 PF11/eMIOS11/Debug Status (io), 33 PF10/eMIOS10/Debug Status (io), 34 PF9/eMIOS9/Debug Status (io), 35 PF8/eMIOS8/Debug Status (io), 36 PF7/eMIOS7/Debug Status (io), 37 PF6/eMIOS6/Debug Status (io), 38 PF5/eMIOS5/Debug Status (io), 39 PF4/eMIOS4/Debug Status (io), 40 PF3/eMIOS3/Debug Status (io), 41 PF2/eMIOS2/Debug Status (io), 42 PF1/eMIOS1/Debug Status/NEXPR (io), 43 PF0/eMIOS0/Debug Status/NEXPS (io), 44 PC8/ADDR8 (io), 45 PC9/ADDR9 (io), 46 PC10/ADDR10 (io), 47 PC11/ADDR11 (io), 51 PG12/RXD_D (io), 52 PG13/TXD_D (io), 65 PA15/DATA15/~{AA} (io), 66 PA14/DATA14/~{PS} (io), 67 PA13/DATA13 (io), 68 PD11/~{OE} (io), 69 PD12/~{CS2} (io), 70 PD0/~{BS0}/MODB (io), 71 PD1/~{BS1}/MODA (io), 72 PB9/PCS0_B/~{SS_B} (io), 73 PB10/PCS5_B/~{PCSS_B} (io), 74 PB11/PCS2_B (io), 75 PB12/PCS1_B (io), 76 PB13/SCK_B (io), 77 PB14/SOUT_B (io), 78 PB15/SIN_B (io), 80 PD2/CLKOUT/~{XCLKS} (io), 81 PD3/~{XIRQ} (io), 82 PD4/~{IRQ} (io), 83 PD13/~{CS1} (io), 84 PD14/~{CS0} (io), 85 PD15/R/~{W} (io), 88 PC12/ADDR12 (io), 89 PC13/ADDR13 (io), 90 PC14/ADDR14 (io), 91 PC15/ADDR15 (io), 92 PD5/ADDR16 (io), 93 PA12/DATA12 (io), 94 PA11/DATA11 (io), 95 PA10/DATA10 (io), 96 PA9/DATA9 (io), 97 PA8/DATA8 (io), 98 PA7/DATA7 (io), 99 PE0/AN0_A/MCKO' (io), 100 PE1/AN1_A/~{EVTO'} (io), 101 PE2/AN2_A/~{EVTI'} (io), 102 PE3/AN3_A/MDO0' (io), 103 PE4/AN4_A/MDO1' (io), 104 PE5/AN5_A/~{MSEO'} (io), 105 PE6/AN6_A/~{RDY'} (io), 106 PE7/AN7_A (io), 107 PE8/AN8_A (io), 108 PE9/AN9_A (io), 113 PE10/AN10_A (io), 114 PE11/AN11_A (io), 115 PE12/AN12_A (io), 116 PE13/AN13_A (io), 117 PE14/AN14_A (io), 118 PE15/AN15_A (io), 119 PD6/ADDR17 (io), 120 PD7/ADDR18 (io), 121 PD8/ADDR19 (io), 122 PD9/ADDR20 (io), 123 PD10/ADDR21 (io), 132 PA6/DATA6/~{RDY} (io), 133 PA5/DATA5/~{MSEO} (io), 134 PA4/DATA4/MDO1 (io), 135 PA3/DATA3/MDO0 (io), 136 PA2/DATA2/~{EVTI} (io), 137 PA1/DATA1/~{EVTO} (io), 138 PA0/DATA0/MCKO (io), 139 PG14/RXD_C (io), 140 PG15/TXD_C (io), 141 PG0/RXD_B (io), 142 PG1/TXD_B (io), 143 PG2/RXD_A (io), 144 PG3/TXD_A (io)
part B pins: 48 ~{RESET} (in), 58 XFC (in), 60 EXTAL (in), 61 XTAL (out), 62 TEST (in), 79 ~{TA}/~{AS} (io), 110 VRH (power), 111 VRL (power)
part C pins: 128 TDI (in), 129 TDO (out), 130 TCK (in), 131 TMS (in)
part D pins: 13 VSSX (power), 14 VDDX (power), 49 VSSX (power), 50 VDDX (power), 53 VDD2.5 (power), 54 VSS2.5 (power), 55 VSSR (power), 56 VDDR (power), 57 VDDPLL (power), 59 VSSPLL (power), 63 VSSX (power), 64 VDDX (power), 86 VSSX (power), 87 VDDX (power), 109 VDDA (power), 112 VSSA (power), 124 VDDX (power), 125 VSSX (power), 126 VSS2.5 (power), 127 VDD2.5 (power)

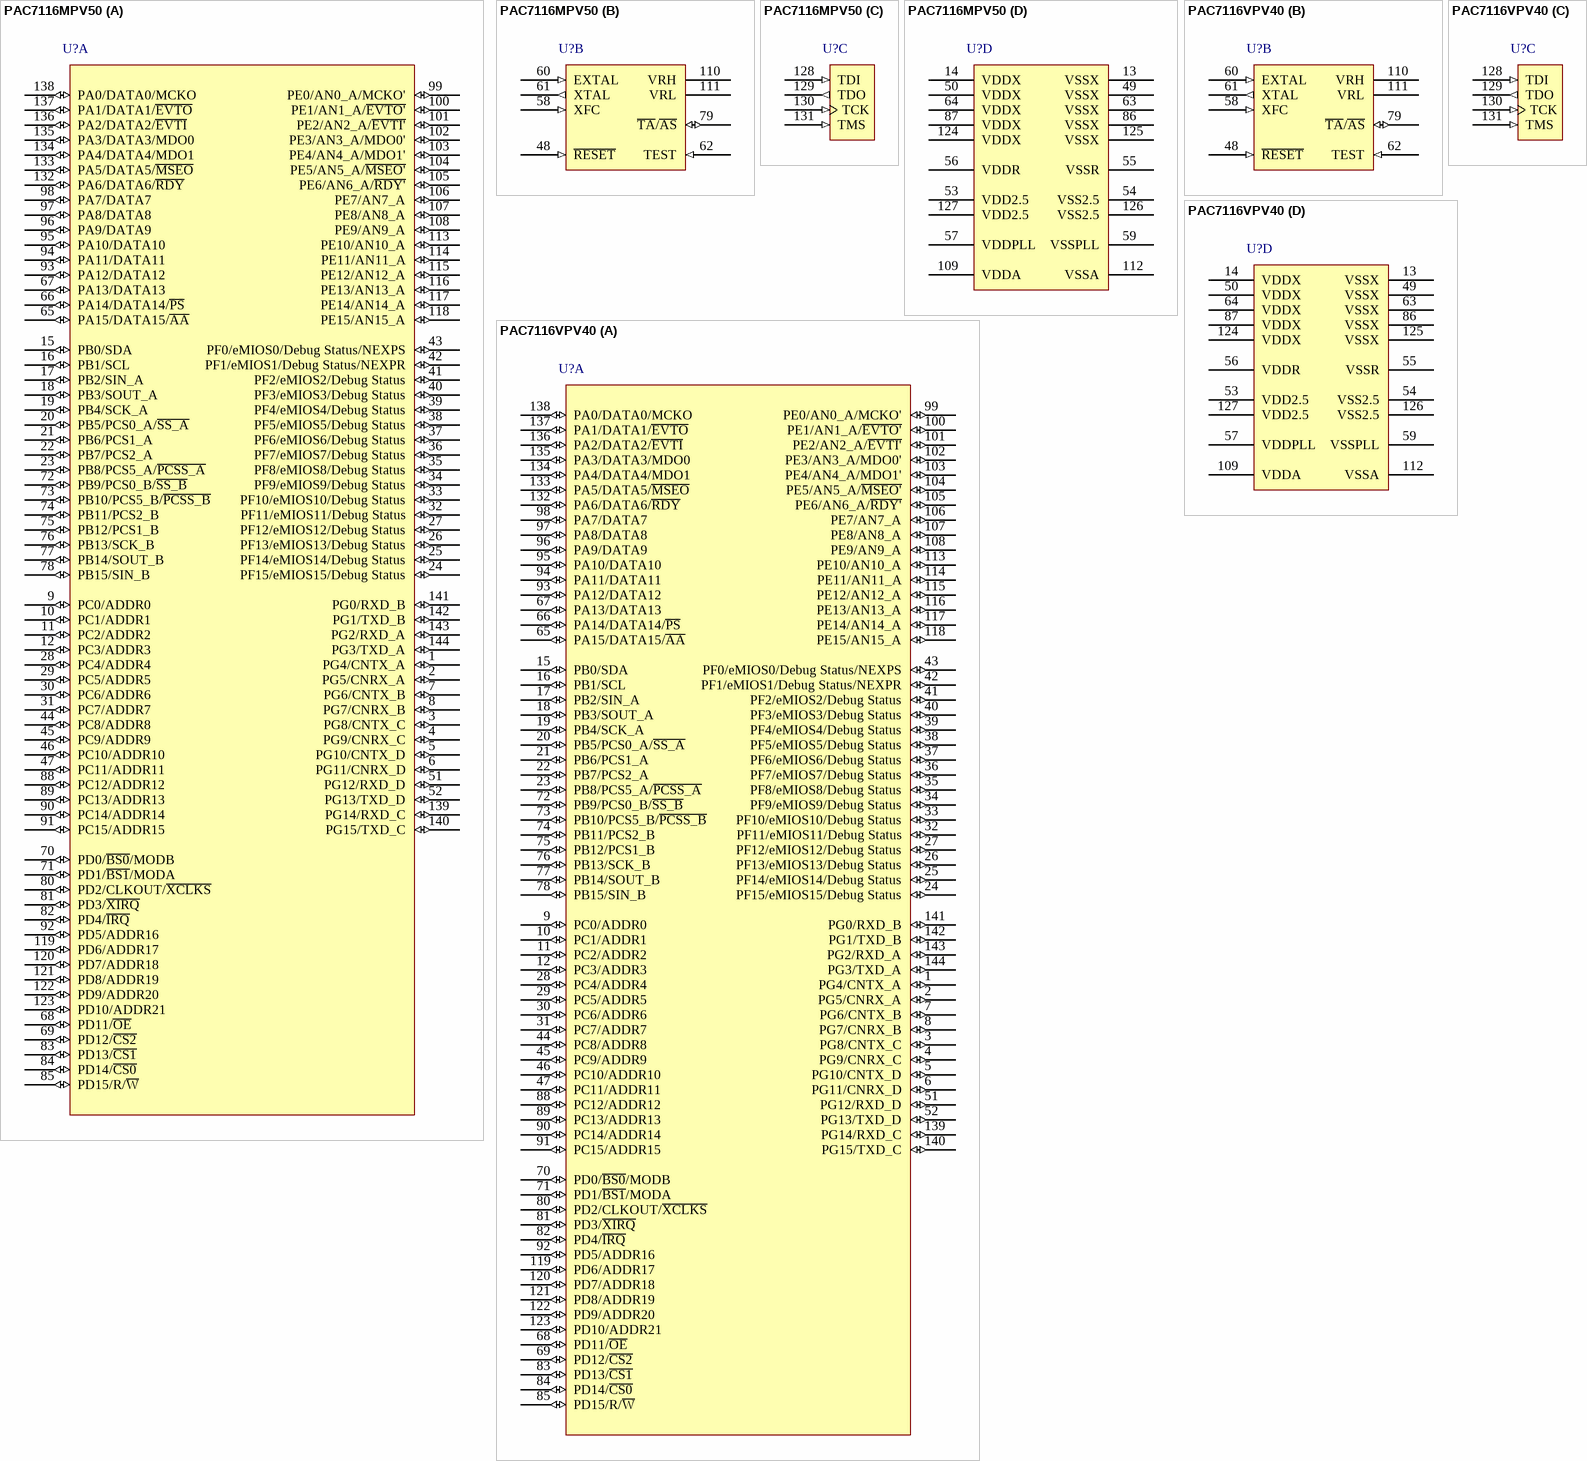
[diagram p30: symbols PAC7116MPV50 to PAC7116VPV40]